# Altium integrated library V2COM_2018.IntLib: 302 symbols (part 2 of 2)
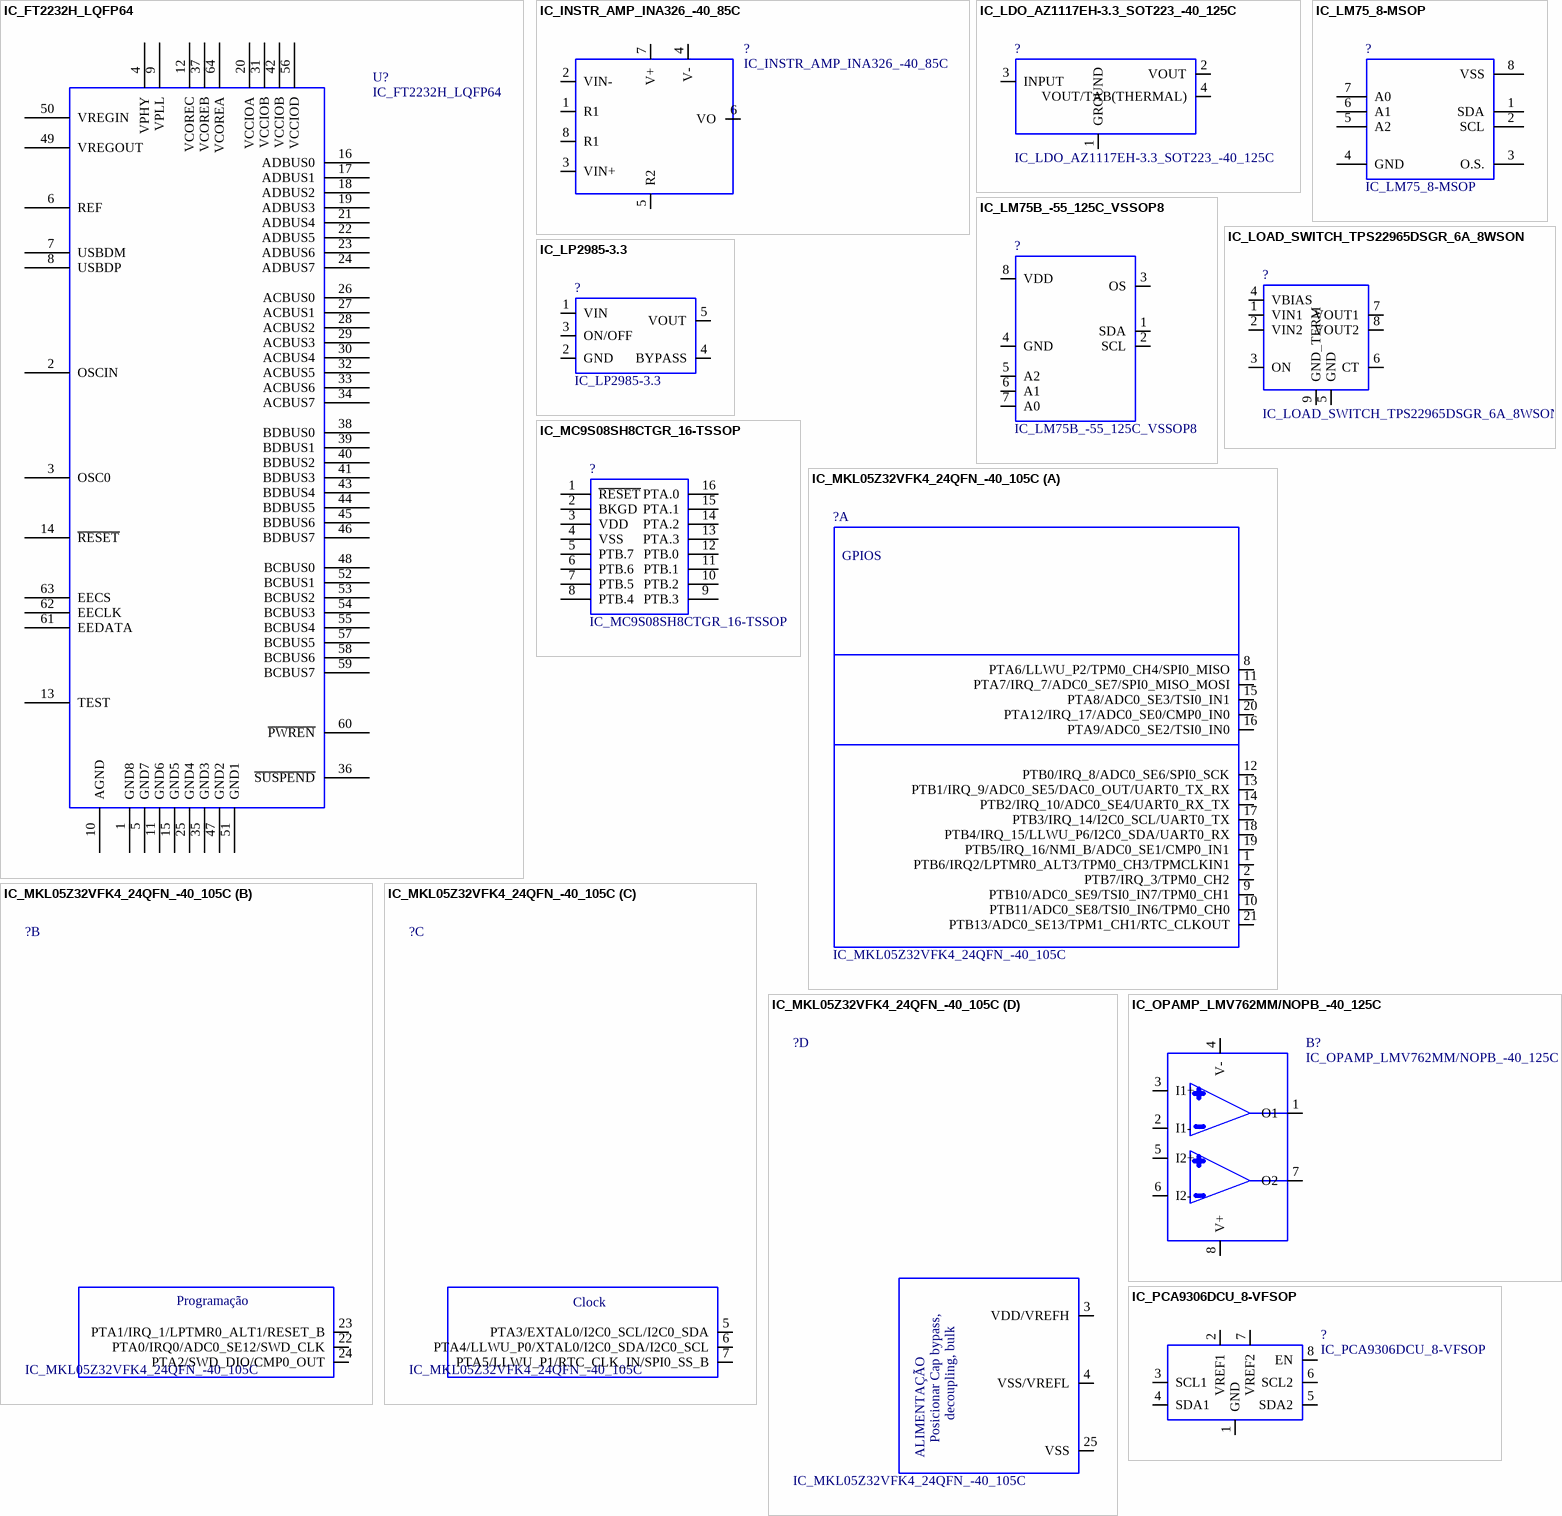
[diagram p17: symbols IC_FT2232H_LQFP64 to IC_PCA9306DCU_8-VFSOP]

## IC_FT2232H_LQFP64
designator U?
PKG: 64 Pin LQFP; VALOR: FT2232HL; MAN: FTDI; Geometry.Height: 0.9 mm; DESC: Dual High Speed USB to UART/FIFO; PN: FT2232HL
footprint LQFP64_10X10
pins: 1 GND8, 2 OSCIN, 3 OSC0, 4 VPHY (power), 5 GND7, 6 REF, 7 USBDM, 8 USBDP, 9 VPLL, 10 AGND, 11 GND6, 12 VCOREC (power), 13 TEST, 14 ~{RESET}, 15 GND5, 16 ADBUS0, 17 ADBUS1, 18 ADBUS2, 19 ADBUS3, 20 VCCIOA (power), 21 ADBUS4, 22 ADBUS5, 23 ADBUS6, 24 ADBUS7, 25 GND4 (power), 26 ACBUS0, 27 ACBUS1, 28 ACBUS2, 29 ACBUS3, 30 ACBUS4, 31 VCCIOB (power), 32 ACBUS5, 33 ACBUS6, 34 ACBUS7, 35 GND3 (power), 36 ~{SUSPEND}, 37 VCOREB (power), 38 BDBUS0, 39 BDBUS1, 40 BDBUS2, 41 BDBUS3, 42 VCCIOB (power), 43 BDBUS4, 44 BDBUS5, 45 BDBUS6, 46 BDBUS7, 47 GND2 (power), 48 BCBUS0, 49 VREGOUT (power), 50 VREGIN (power), 51 GND1 (power), 52 BCBUS1, 53 BCBUS2, 54 BCBUS3, 55 BCBUS4, 56 VCCIOD (power), 57 BCBUS5, 58 BCBUS6, 59 BCBUS7, 60 ~{PWREN}, 61 EEDATA, 62 EECLK, 63 EECS, 64 VCOREA (power)
1 alternate drawing of the same symbol

## IC_INSTR_AMP_INA326_-40_85C
designator ?
DESC: IC Instru. AMP; Geometry.Height: 1.1 mm; MAN: TI; ORIGEM: SFI ED03r1; PKG: 8VSSOP; PN: INA326EA/2K5; TemperatureRange: [-40;85]ºC; VALOR: INA326; VoltageRange: [2.7;5.5]V;[±1,35;2,75]V
footprint INA326-8VSSOP-DGK
pins: 1 R1, 2 VIN-, 3 VIN+, 4 V-, 5 R2, 6 VO, 7 V+, 8 R1

## IC_LDO_AZ1117EH-3.3_SOT223_-40_125C
designator ?
CurrentRange: Ioutmax=1.3A;Iq=3.5mA; DESC: Low Dropout Linear Regulator 1A; Geometry.Height: 1.8 mm; MAN: ON Semiconductor; PKG: SOT223; PN: AZ1117EH-3.3TRG1; TemperatureRange: [-40;155] ºC; VoltageRange: Vin=[-;13]V; ORIGEM: SFI ED03r1; VALOR: AZ1117EH-3.3TRG1
footprint IC_LDO_AZ1117E
pins: 1 GROUND, 2 VOUT, 3 INPUT, 4 VOUT/TAB(THERMAL)

## IC_LM75_8-MSOP
designator ?
VALOR: LM75; PN: LM75BIMM-3; LM75ADP; PKG: 8-TSSOP, 8-MSOP; MAN: TEXAS INSTRUMENTS; NXP; Geometry.Height: 1.1mm; DESC: IC TEMP SENSOR DGTL 8VSSOP
footprint MSOP-8
pins: 1 SDA, 2 SCL, 3 O.S., 4 GND, 5 A2, 6 A1, 7 A0, 8 VSS (power)

## IC_LM75B_-55_125C_VSSOP8
designator ?
DESC: LM75 Digital Temperature Sensor; Geometry.Height: 1.1mm; MAN: NXP; Texas Instruments; ORIGEM: SFI ED03r1; PKG: VSSOP-8; PN: LM75BDP-118;LM75BIMM-3/NOPB; TemperatureRange: [-55;125]C; VALOR: LM75B; VoltageRange: [3;5.5]V; CurrentRange: [4;300]uA; FrequencyRange: up to 400kHz
footprint LM75BDP-118
pins: 1 SDA (io), 2 SCL, 3 OS (oc), 4 GND, 5 A2, 6 A1, 7 A0, 8 VDD (power)

## IC_LOAD_SWITCH_TPS22965DSGR_6A_8WSON
designator ?
CurrentRange: [-;6]A; Geometry.Height: 0.8 mm; MAN: Texas Instruments; ORIGEM: SFI ED03r1; PKG: 8-WSON; TemperatureRange: [-40°,105°]C; VoltageRange: [0.8;5.7]V; DESC: IC_LOAD_SWITCH_TPS22965DSGR_6A_8WSON; PN: TPS22965DSGR; VALOR: TPS22965
footprint TPS22965DSGR
pins: 1 VIN1 (power), 2 VIN2 (power), 3 ON, 4 VBIAS, 5 GND, 6 CT, 7 VOUT1, 8 VOUT2, 9 GND_TERM

## IC_LP2985-3.3
designator ?
VALOR: LP2985-3.0V; PN: LP2985AIM5-3.0/NOPB; PKG: SOT23-5; ORIGEM: SFI ED03r1; MAN: Texas Instruments; Geometry.Height: 1.45 mm; DESC: Micropower150-mA Low-Noise Ultra-Low-Dropout Regulator Vout=3.0V
footprint SOT23-5
pins: 1 VIN, 2 GND, 3 ON/OFF, 4 BYPASS, 5 VOUT

## IC_MC9S08SH8CTGR_16-TSSOP
designator ?
VALOR: SH8; Geometry.Height: 0.8 mm; MAN: FREESCALE; DESC: IC MCU 8BIT 8K FLASH; PN: MC9S08SH8CTGR; PKG: 16-TSSOP
footprint SH8-16-TSSOP
pins: 1 ~{RESET}, 2 BKGD, 3 VDD, 4 VSS, 5 PTB.7, 6 PTB.6, 7 PTB.5, 8 PTB.4, 9 PTB.3, 10 PTB.2, 11 PTB.1, 12 PTB.0, 13 PTA.3, 14 PTA.2, 15 PTA.1, 16 PTA.0

## IC_MKL05Z32VFK4_24QFN_-40_105C
designator ?
DESC: IC MCU ARM 32KB FLASH 24QFN -40 105C; Geometry.Height: 1.0mm; MAN: NXP; ORIGEM: SFI ED03r1; PKG: 24QFN; VALOR: MKL05Z; TemperatureRange: [-40;105]C; VoltageRange: [1,7;3,6]V; CurrentRange: [2.5u;10m]A; FrequencyRange: up to 48MHz; PN: MKL05Z32VFK4
footprint MKL05Z32VFK4
part A pins: 1 PTB6/IRQ2/LPTMR0_ALT3/TPM0_CH3/TPMCLKIN1, 2 PTB7/IRQ_3/TPM0_CH2, 8 PTA6/LLWU_P2/TPM0_CH4/SPI0_MISO, 9 PTB10/ADC0_SE9/TSI0_IN7/TPM0_CH1, 10 PTB11/ADC0_SE8/TSI0_IN6/TPM0_CH0, 11 PTA7/IRQ_7/ADC0_SE7/SPI0_MISO_MOSI, 12 PTB0/IRQ_8/ADC0_SE6/SPI0_SCK, 13 PTB1/IRQ_9/ADC0_SE5/DAC0_OUT/UART0_TX_RX, 14 PTB2/IRQ_10/ADC0_SE4/UART0_RX_TX, 15 PTA8/ADC0_SE3/TSI0_IN1, 16 PTA9/ADC0_SE2/TSI0_IN0, 17 PTB3/IRQ_14/I2C0_SCL/UART0_TX, 18 PTB4/IRQ_15/LLWU_P6/I2C0_SDA/UART0_RX, 19 PTB5/IRQ_16/NMI_B/ADC0_SE1/CMP0_IN1, 20 PTA12/IRQ_17/ADC0_SE0/CMP0_IN0, 21 PTB13/ADC0_SE13/TPM1_CH1/RTC_CLKOUT
part B pins: 22 PTA0/IRQ0/ADC0_SE12/SWD_CLK, 23 PTA1/IRQ_1/LPTMR0_ALT1/RESET_B, 24 PTA2/SWD_DIO/CMP0_OUT
part C pins: 5 PTA3/EXTAL0/I2C0_SCL/I2C0_SDA, 6 PTA4/LLWU_P0/XTAL0/I2C0_SDA/I2C0_SCL, 7 PTA5/LLWU_P1/RTC_CLK_IN/SPI0_SS_B
part D pins: 3 VDD/VREFH, 4 VSS/VREFL, 25 VSS
part A text: GPIOS
part B text: Programação
part C text: Clock
part D text: decoupling, bulk; Posicionar Cap bypass,; ALIMENTAÇÃO

## IC_OPAMP_LMV762MM/NOPB_-40_125C
designator B?
DESC: IC COMP PREC W/P-POP LV 8VSSOP; Geometry.Height: 1.2mm; MAN: TEXAS INSTRUMENTS; ORIGEM: SFI ED03r1; PKG: 8VSSOP; TemperatureRange: [-40;125]ºC; VoltageRange: [2.7;5]V; PN: LMV762MM/NOPB; VALOR: LMV762MM/NOPB
footprint LMV762MM-8VSSOP-DGK
pins: 1 O1, 2 I1-, 3 I1+, 4 V-, 5 I2+, 6 I2-, 7 O2, 8 V+

## IC_PCA9306DCU_8-VFSOP
designator ?
DESC: IC VOLT LEVEL TRANSLATOR US8; MAN: TEXAS INSTRUMENTS; PN: PCA9306DCUR; Geometry.Height: 1mm; PKG: 8-VFSOP; VALOR: PCA9306DCUR
footprint DCU_R_PDSO_G8
pins: 1 GND, 2 VREF1 (power), 3 SCL1 (io), 4 SDA1 (io), 5 SDA2 (io), 6 SCL2 (io), 7 VREF2 (power), 8 EN

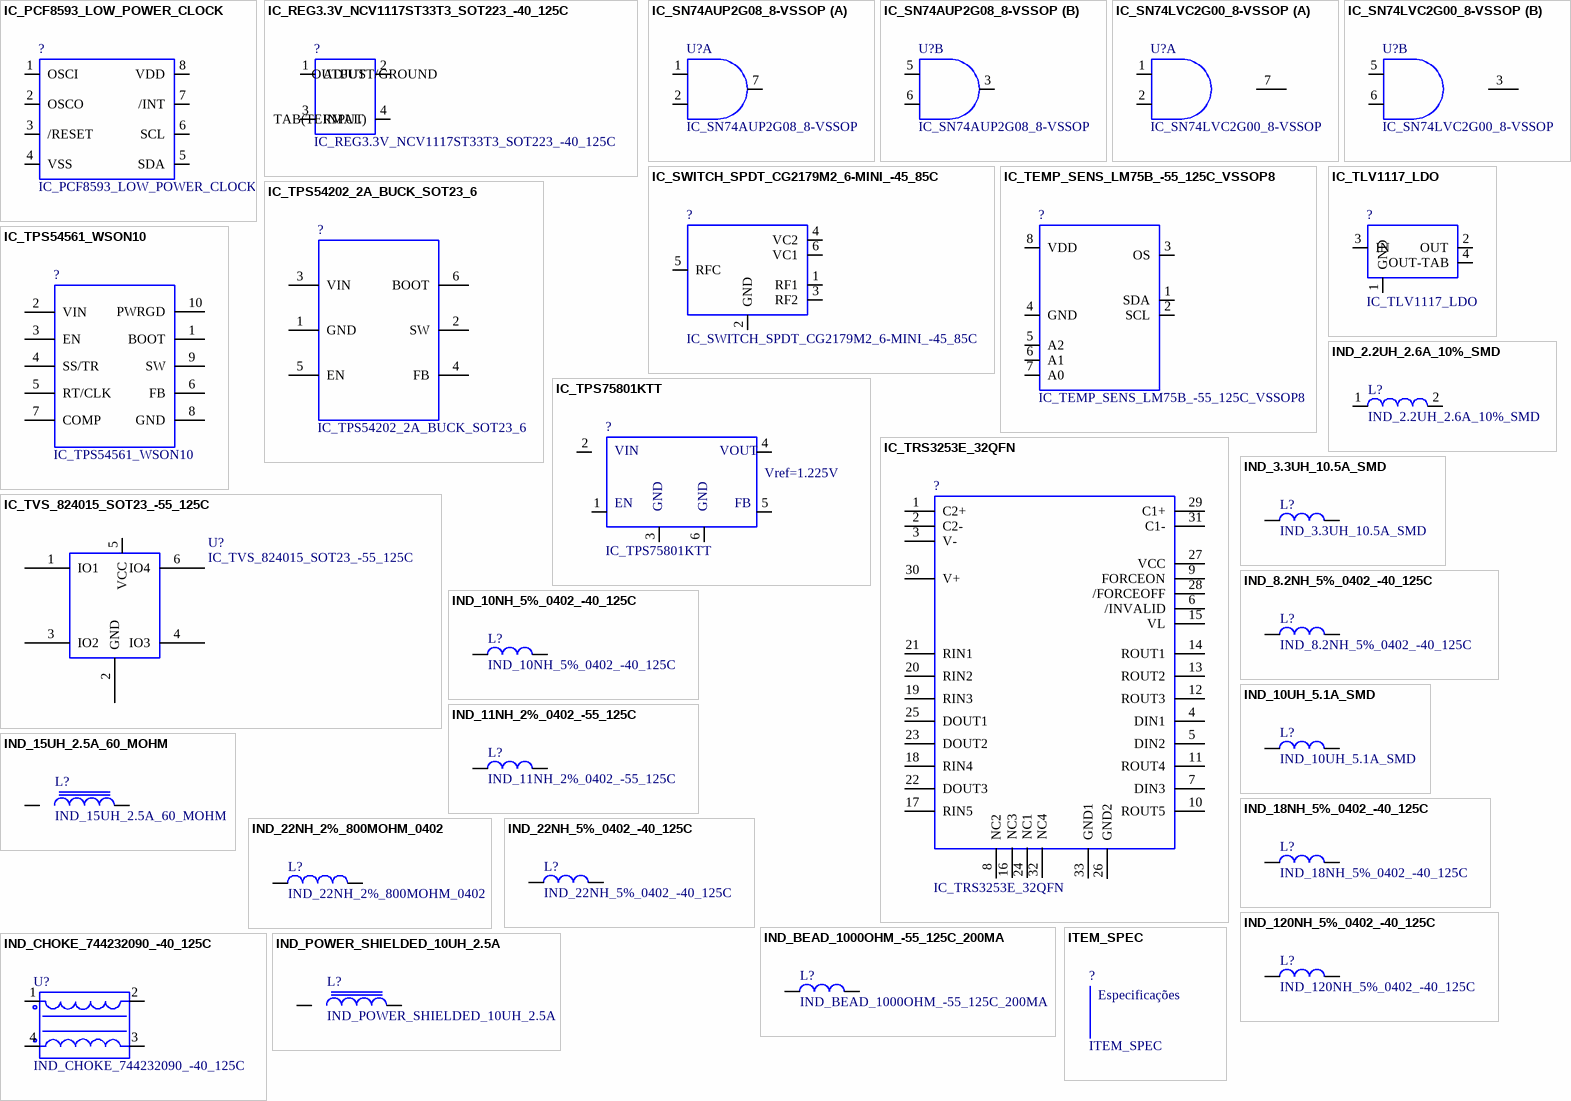
[diagram p11: symbols IC_PCF8593_LOW_POWER_CLOCK to ITEM_SPEC]

## IC_PCF8593_LOW_POWER_CLOCK
designator ?
DESC: Low power clock and calendar; Geometry.Height: 1.75 mm; MAN: NXP Semiconductors; ORIGEM: CRC_BRICK_PULSE_COUNTER_ED01R1; PKG: SO8; PN: PCF8593; VALOR: PCF8593
footprint IC_PCF8593_8SOIC
pins: 1 OSCI, 2 OSCO, 3 /RESET, 4 VSS, 5 SDA, 6 SCL, 7 /INT, 8 VDD

## IC_REG3.3V_NCV1117ST33T3_SOT223_-40_125C
designator ?
CurrentRange: Iout=1A;Iq=10mA; DESC: REG_Vout_3.3V_NCV1117ST33T3G_1A_SOT223_-40_125C; Geometry.Height: 1.8 mm; MAN: ON Semiconductor; PKG: SOT223; PN: NCV1117ST33T3G; TemperatureRange: [-40;125] ºC; VALOR: REGULADOR 3.3V NCV1117ST33T3G; VoltageRange: Vin=[-;20]V; ORIGEM: SFI ED03r1
footprint NCV1117ST33T3G
pins: 1 ADJUST/GROUND, 2 OUTPUT, 3 INPUT, 4 TAB(TERMAL)

## IC_SN74AUP2G08_8-VSSOP
designator U?
PKG: DCU; VALOR: SN74AUP2G08DCU; MAN: TI; Geometry.Height: 0.9 mm; DESC: Low power Dual 2-input POSISTIVE-AND GATE; PN: SN74AUP2G08DCU
footprint U_8_DCU
pins on every part: 4 GND (power) hidden, 8 VCC (power) hidden
part A pins: 1 2A, 2 2B, 7 2Y
part B pins: 3 2Y, 5 2A, 6 2B

## IC_SN74LVC2G00_8-VSSOP
designator U?
PKG: DCU; VALOR: SN74LVC2G00DCUR; MAN: TI; Geometry.Height: 0.9 mm; DESC: Dual 2-Input POSITIVE-NAND GATE; PN: SN74LVC2G00DCUR
footprint U_8_DCU
pins on every part: 4 GND (power) hidden, 8 VCC (power) hidden
part A pins: 1 2A, 2 2B, 7 2Y (oc)
part B pins: 3 2Y (oc), 5 2A, 6 2B

## IC_SWITCH_SPDT_CG2179M2_6-MINI_-45_85C
designator ?
FrequencyRange: [0.05, 3]GHz; Geometry.Height: 0.9 mm; MAN: CEL; ORIGEM: SFI ED03r1; PKG: 6-Minimold SMD; TemperatureRange: [-45;85]C; VoltageRange: [1.8;5.3]V; DESC: IC_SWITCH_SPDT_CG2179M2_6-MINI_-45_85C; PN: CG2179M2; VALOR: CG2179M2
footprint SWITCH_CG2179M2
pins: 1 RF1, 2 GND, 3 RF2, 4 VC2 (power), 5 RFC, 6 VC1 (power)

## IC_TEMP_SENS_LM75B_-55_125C_VSSOP8
designator ?
CurrentRange: [4;300]uA; DESC: LM75 Digital Temperature Sensor; FrequencyRange: up to 400kHz; Geometry.Height: 1.1mm; MAN: NXP; Texas Instruments; ORIGEM: SFI ED03r1; PKG: VSSOP-8; PN: LM75BDP-118;LM75BIMM-3/NOPB; TemperatureRange: [-55;125]C; VALOR: LM75B; VoltageRange: [3;5.5]V
footprint LM75BDP-118
pins: 1 SDA (io), 2 SCL, 3 OS (oc), 4 GND, 5 A2, 6 A1, 7 A0, 8 VDD (power)

## IC_TLV1117_LDO
designator ?
DESC: FIXED LOW-DROPOUT VOLTAGE REGULATOR; PKG: SOT-223; VALOR: TLV1117-33; Geometry.Height: 1.8mm
footprint IC_TLV1117-33
pins: 1 GND, 2 OUT, 3 IN, 4 OUT-TAB

## IC_TPS54202_2A_BUCK_SOT23_6
designator ?
PN: TPS54202DDCT; PKG: SOT23-6; MAN: TI; Geometry.Height: 1.1mm; DESC: IC REG BUCK ADJ 2A SYNC SOT23-6; VALOR: TPS54202
footprint SOT23-6
pins: 1 GND, 2 SW, 3 VIN, 4 FB, 5 EN, 6 BOOT

## IC_TPS54561_WSON10
designator ?
DESC: IC REG BCK SPLIT RAIL ADJ 10WSON; Geometry.Height: 1mm; MAN: TI; PKG: 10 WSON; PN: TPS54561DP; VALOR: TPS54561
footprint SON80P400X400X80-11N
pins: 1 BOOT, 2 VIN (power), 3 EN (hiz), 4 SS/TR, 5 RT/CLK, 6 FB, 7 COMP, 8 GND, 9 SW (power), 10 PWRGD, 11 GND (power) hidden

## IC_TPS75801KTT
designator ?
PN: TPS75801KTTR, TPS75801KTTT; PKG: TO-263; MAN: TI; TI; Geometry.Height: 4.6mm; DESC: Voltage Regulator 3A LOW-DROPOUT; VALOR: TPS75801KTT
footprint LM2576_TO-263_3
pins: 1 EN, 2 IN, 3 GND, 4 OUT, 5 FB, 6 GND1
text: VIN; VOUT; Vref=1.225V

## IC_TRS3253E_32QFN
designator ?
DESC: RS-232 TRANSCEIVER WITH SPLIT SUPPLY PIN FOR LOGIC SIDE; Geometry.Height: 1.0 mm; MAN: Texas Instruments; PKG: RSM (S-PVQFN-N32); PN: TRS3253EIRSMR; VALOR: TRS3253EIRSMR
footprint 32_QFN
pins: 1 C2+, 2 C2-, 3 V-, 4 DIN1, 5 DIN2, 6 /INVALID, 7 DIN3, 8 NC2, 9 FORCEON, 10 ROUT5, 11 ROUT4, 12 ROUT3, 13 ROUT2, 14 ROUT1, 15 VL (power), 16 NC3, 17 RIN5, 18 RIN4, 19 RIN3, 20 RIN2, 21 RIN1, 22 DOUT3, 23 DOUT2, 24 NC1, 25 DOUT1, 26 GND2, 27 VCC (power), 28 /FORCEOFF, 29 C1+, 30 V+, 31 C1-, 32 NC4, 33 GND1

## IC_TVS_824015_SOT23_-55_125C
designator U?
CurrentRange: Ipp=12A; DESC: TVS array ESD protection 4channel USB Interface; Geometry.Height: 0.6 mm; MAN: littelfuse, wurth; ORIGEM: SFI ED03r1; PKG: SO23-6; PN: SP0504SH, 824015; TemperatureRange: [-55;125]ºC; VALOR: SP0504SH; VoltageRange: Vdc=6V
footprint SOT23-6
pins: 1 IO1, 2 GND, 3 IO2, 4 IO3 (power), 5 VCC, 6 IO4 (power)

## IND_2.2UH_2.6A_10%_SMD
designator L?
PKG: SMD; VALOR: 2.2uH, 2.6A; PN: ELL-5PR2R2N, VLCF5020T-2R2N2R6-3, VLC5020T-2R2N; MAN: Panasonic, TDK, TDK; Geometry.Height: 2.0 mm; DESC: Inductor 2.2uH 2.6A, 43 milliohm
footprint VLCF5020T_1
pins: 1, 2

## IND_3.3UH_10.5A_SMD
designator L?
DESC: FIXED IND 3.3UH 10.5A 5.67 MOHM; Geometry.Height: 8.0mm; MAN: EATON; PKG: SMD; PN: DR127-3R3-R; VALOR: 3.3uH,10.5A
footprint DR127
pins: 1, 2

## IND_8.2NH_5%_0402_-40_125C
designator L?
CurrentRange: [-;1.5]A; DESC: IND_8.2NH_5%_0.054OHM_0402_-40_125C; Geometry.Height: 0.61 mm; MAN: CoilCraft; ORIGEM: SFI ED03r1; PKG: 0402; PN: 0402HP-8N2XJL; TemperatureRange: [-40;125]C; VALOR: 8.2nH, 5%
footprint IND0402
pins: 1, 2

## IND_10NH_5%_0402_-40_125C
designator L?
CurrentRange: [-;1.3]A; DESC: IND_10NH_5%_0.085OHM_0402_-40_125C; Geometry.Height: 0.61 mm; MAN: CoilCraft; ORIGEM: SFI ED03r1; PKG: 0402; PN: 0402HP-10NXJLU; TemperatureRange: [-40;125]C; VALOR: 10nH, 5%
footprint IND0402
pins: 1, 2

## IND_10UH_5.1A_SMD
designator L?
MAN: TDK; TDK; Geometry.Height: 4.7mm; VALOR: 10uH,5.1A; PN: RLF12545T-100M5R1-PF; RLF12560T-100M7R5; PKG: SMD; DESC: FIXED IND 10UH 5.1A 12.4 MOHM
footprint 7447709101
pins: 1, 2

## IND_11NH_2%_0402_-55_125C
designator L?
CurrentRange: [-;0.5]A; DESC: IND_11NH_0.14OHM_2%_0402_-55_125C; Geometry.Height: 0.6 mm; MAN: Murata Electronis North America; ORIGEM: SFI ED03r1; PKG: 0402; PN: LQW15AN11NG00D; TemperatureRange: [-55;125]C; VALOR: 11nH, 2%
footprint IND0402
pins: 1, 2

## IND_15UH_2.5A_60_MOHM
designator L?
DESC: IND SHIELDED POWER 15UH 1.6A; MAN: BOURNS; PN: SRR6038-150Y; VALOR: 15uH 1.6A; Geometry.Height: *
footprint IND_BOURNS_SDR1005
pins: 1, 2
1 alternate drawing of the same symbol

## IND_18NH_5%_0402_-40_125C
designator L?
CurrentRange: [-;0.9]A; DESC: IND_18NH_5%_0.120OHM_0402_-40_125C; Geometry.Height: 0.61 mm; MAN: CoilCraft; ORIGEM: SFI ED03r1; PKG: 0402; PN: 0402HP-18NXJLU; TemperatureRange: [-40;125]C; VALOR: 18nH, 5%
footprint IND0402
pins: 1, 2

## IND_22NH_2%_800MOHM_0402
designator L?
PKG: 0402; VALOR: 22nH; PN: ELJ-RF22NGFB; MAN: Panasonic; Geometry.Height: 0.5 mm; DESC: IND 22nH 2% 200mA 800mohm 0402
footprint 0402
pins: 1, 2

## IND_22NH_5%_0402_-40_125C
designator L?
CurrentRange: [-;0.8]A; DESC: IND_22NH_5%_0.160OHM_0402_-40_125C; Geometry.Height: 0.61 mm; MAN: CoilCraft; ORIGEM: SFI ED03r1; PKG: 0402; PN: 0402HP-22NXJL; TemperatureRange: [-40;125]C; VALOR: 22nH, 5%
footprint IND0402
pins: 1, 2

## IND_120NH_5%_0402_-40_125C
designator L?
CurrentRange: [-;0.31]A; DESC: IND_120NH_5%_1.2OHM_0402_-40_125C; Geometry.Height: 0.61 mm; MAN: CoilCraft; ORIGEM: SFI ED03r1; PKG: 0402; PN: 0402HPH-R12XJL; TemperatureRange: [-40;125]C; VALOR: 120nH, 5%
footprint IND0402
pins: 1, 2

## IND_BEAD_1000OHM_-55_125C_200MA
designator L?
DESC: FERR BEAD 1000OHM WIDE BAND SMD -55 125C; Geometry.Height: 0.8mm; MAN: WURTH; ORIGEM: SFI ED03r1; PKG: 0603; PN: 74279266; VALOR: 1000Ohm bead; TemperatureRange: [-55;125]C; CurrentRange: [-;200m]A
footprint IND0603
pins: 1, 2

## IND_CHOKE_744232090_-40_125C
designator U?
CurrentRange: Imax=370mA; DESC: Common Mode Line Filter; Geometry.Height: 1.8mm; MAN: WURTH; ORIGEM: SFI ED03r1; PKG: SMD; TemperatureRange: [-40;125]ºC; VoltageRange: [-;50]V; PN: 744232090; VALOR: 744232090
footprint 744232090
pins: 1, 2, 3, 4

## IND_POWER_SHIELDED_10UH_2.5A
designator L?
PKG: SMD; VALOR: 10uH,2.5A; PN: SRN6045-100M; MAN: BOURNS; Geometry.Height: 4.5 mm; DESC: IND SHIELDED 10UH 2.5A 58.6MOHM
footprint INDDFN600X600X450-2N
pins: 1, 2

## ITEM_SPEC
designator ?
DESC: *
footprint PCBNULL
text: Especificações

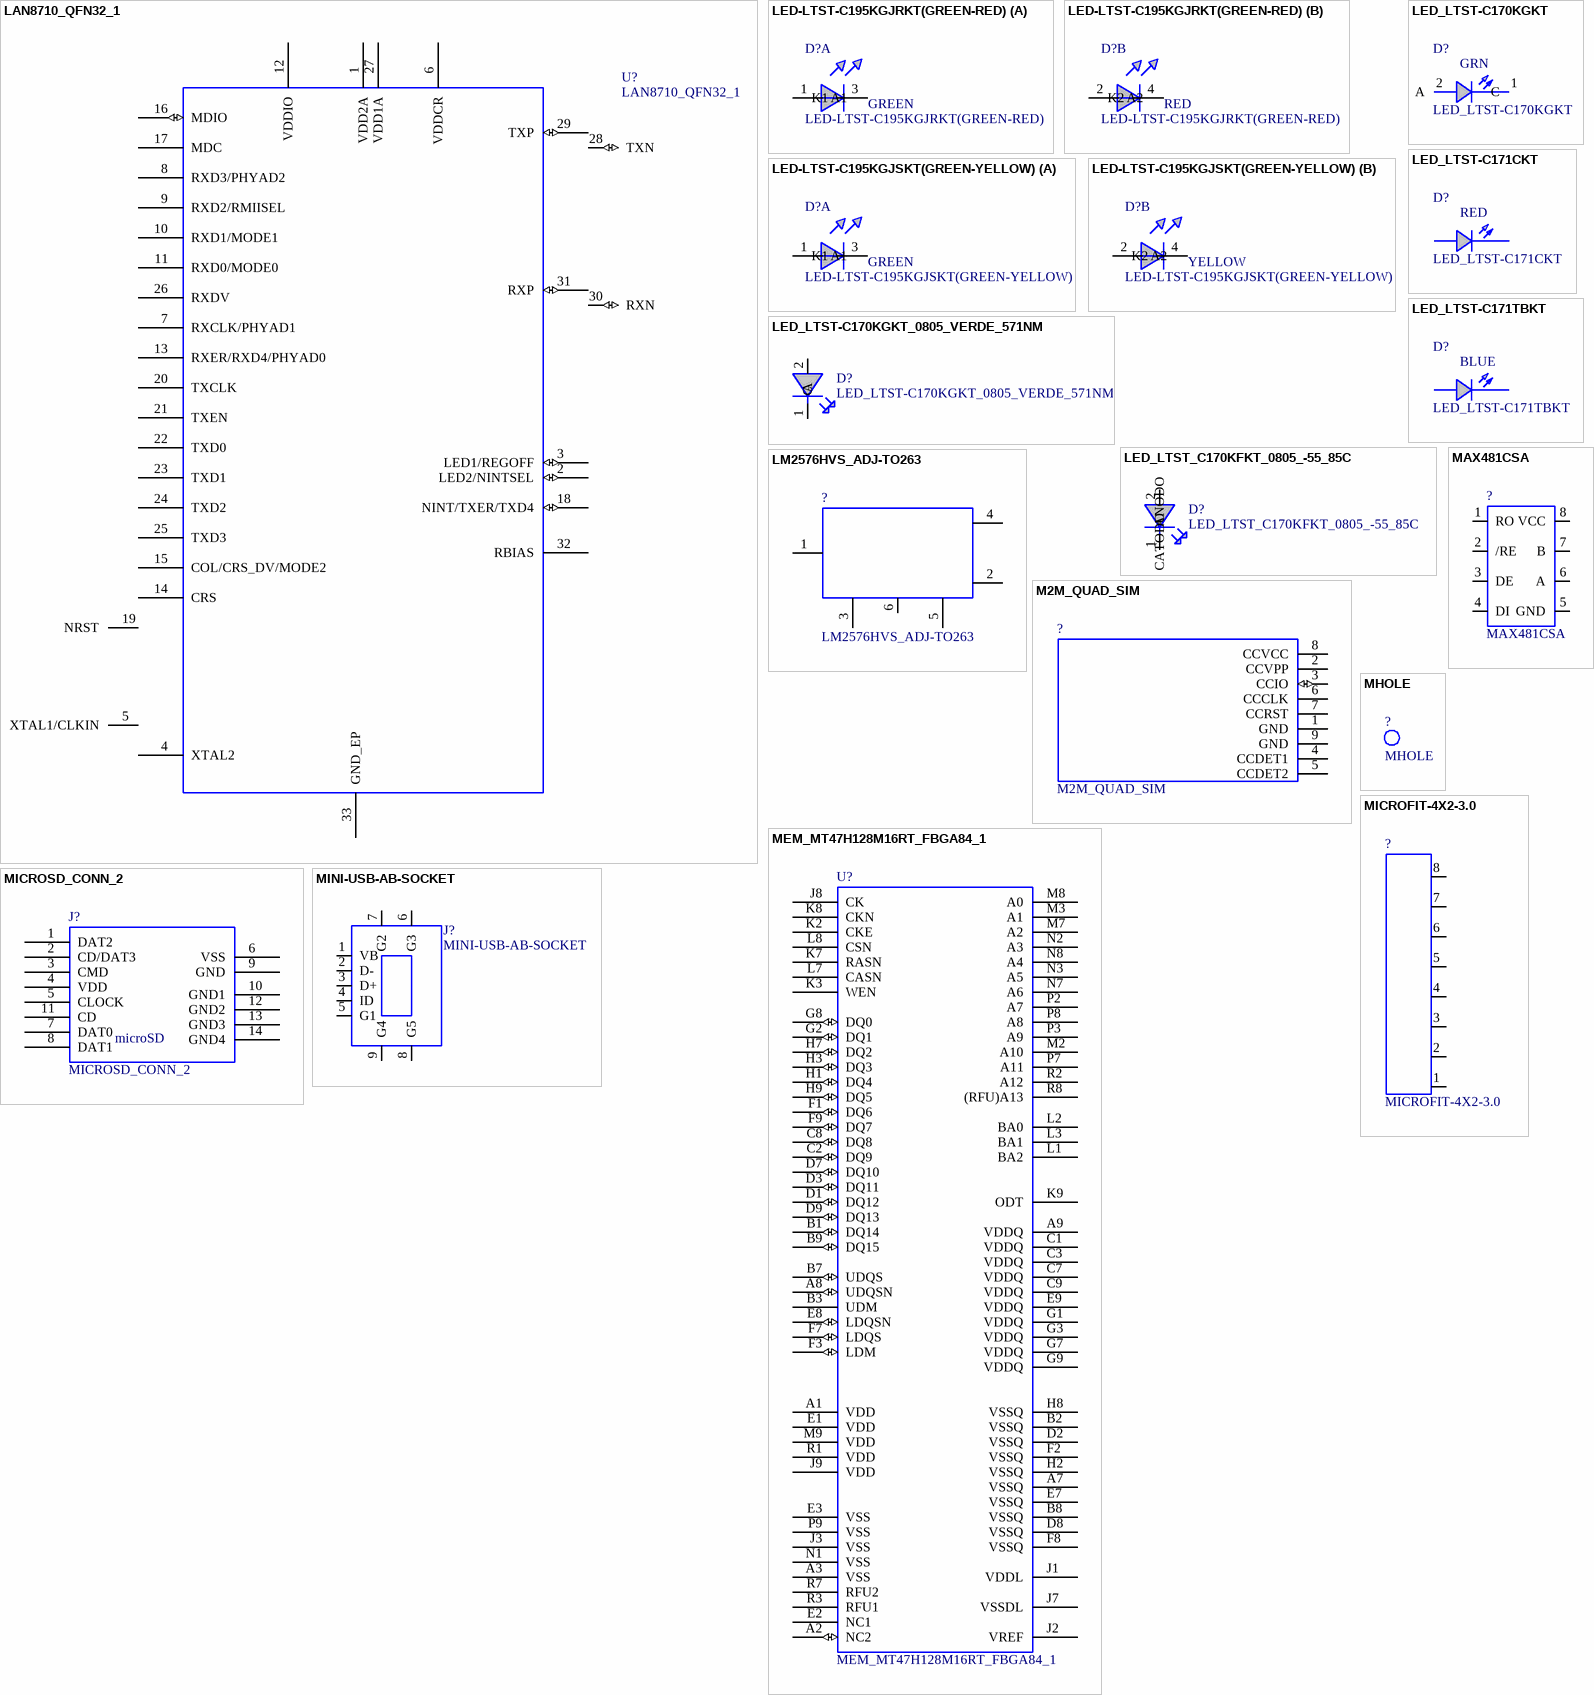
[diagram p12: symbols LAN8710_QFN32_1 to MINI-USB-AB-SOCKET]

## LAN8710_QFN32_1
designator U?
PKG: 32 Pin QFN; DESC: Ethernet Transceiver MII/RMII 10/100; VALOR: LAN8710A-EZK-TR; MAN: SMSC; Geometry.Height: 0.85 mm; PN: LAN8710A-EZK-TR
footprint QFN32_5X5MM_EP3P3MM
pins: 1 VDD2A (power), 2 LED2/NINTSEL (io), 3 LED1/REGOFF (io), 4 XTAL2, 5 XTAL1/CLKIN, 6 VDDCR (power), 7 RXCLK/PHYAD1, 8 RXD3/PHYAD2, 9 RXD2/RMIISEL, 10 RXD1/MODE1, 11 RXD0/MODE0, 12 VDDIO (power), 13 RXER/RXD4/PHYAD0, 14 CRS, 15 COL/CRS_DV/MODE2, 16 MDIO (io), 17 MDC, 18 NINT/TXER/TXD4 (io), 19 NRST, 20 TXCLK, 21 TXEN, 22 TXD0, 23 TXD1, 24 TXD2, 25 TXD3, 26 RXDV, 27 VDD1A (power), 28 TXN (io), 29 TXP (io), 30 RXN (io), 31 RXP (io), 32 RBIAS, 33 GND_EP (power)

## LED-LTST-C195KGJRKT(GREEN-RED)
designator D?
Geometry.Height: 0.55mm; DESC: LED SMD BICOLOR - VERDE/VERMELHO; MAN: LITEON; PKG: 0606; VALOR: VERDE 571nm - Vermelho 631nm; PN: LTST-C195KGJRKT
footprint LED-DUPLO-V2
part A pins: 1 A1, 3 K1
part B pins: 2 A2, 4 K2
part A text: GREEN
part B text: RED

## LED-LTST-C195KGJSKT(GREEN-YELLOW)
designator D?
Geometry.Height: 0.55 mm; DESC: LED SMD BICOLOR - VERDE/AMARELO; MAN: LITEON; PKG: 0606; VALOR: VERDE 571nm 35 mcd - Yellow 589nm 75 mcd; PN: LTST-C195KGJSKT
footprint LED-DUPLO-V2
part A pins: 1 A1, 3 K1
part B pins: 2 A2, 4 K2
part A text: GREEN
part B text: YELLOW

## LED_LTST-C170KGKT
designator D?
Geometry.Height: 1.1 mm; MAN: llite-on; Kingbright; Everlight; PN: LTST-C170KGKT; KP-2012VGC-A; 17-21SYGC/S530-E2/TR8; VALOR: Green, 571 nm; DESC: LED Green 20mA 2V 0805; PKG: 0805
footprint LED0805-1
pins: 1 C, 2 A
text: GRN

## LED_LTST-C170KGKT_0805_VERDE_571NM
designator D?
CurrentRange: [-;30]mA; DESC: LED_VERDE_0805_35mcd; Geometry.Height: 1.1 mm; MAN: Lite-On Inc.; ORIGEM: SFI ED03r1; PKG: 0805; TemperatureRange: [-40º;85º]C; VALOR: LED VERDE 571nm LTST-C170KGKT; VoltageRange: Reverse_Voltage=5V; Vt=2V; PowerRating: Pmax=75mW; PN: LTST-C170KGKT
footprint LED0805
pins: 1 C, 2 A

## LED_LTST-C171CKT
designator D?
PKG: 0805; DESC: LED Red 20mA 1.8V 0805; VALOR: Red, 638 nm; MAN: lite-on; Geometry.Height: 0.8 mm; PN: LTST-C171CKT
footprint LED0805-1
pins: 1 C, 2 A
text: RED

## LED_LTST-C171TBKT
designator D?
PKG: 0805; DESC: LED Blue 20mA 2V 0805 104 mcd 468 nm; VALOR: Blue, 468nm, 104mcd; PN: LTST-C171TBKT; 17-21/BHC-AN1P2/3T; MAN: Lite-on; Everlight; Geometry.Height: 0.55 mm
footprint LED0805-1
pins: 1 C, 2 A
text: BLUE

## LED_LTST_C170KFKT_0805_-55_85C
designator D?
CurrentRange: [-;30]mA; DESC: LED_Vt_2V_0805 _-55_85C; Geometry.Height: 1.1 mm; MAN: Lite-On Inc.; ORIGEM: SFI ED03r1; PKG: 0805; PN: LTST-C170KFKT; TemperatureRange: [-40º;85º]C; VoltageRange: Reverse_Voltage=5V; Vt=2V; PowerRating: 75mW; VALOR: LTST-C170KFKT
footprint LED0805
pins: 1 ANODO, 2 CATODO

## LM2576HVS_ADJ-TO263
designator ?
VALOR: LM2576HV-S ADJ; PKG: TO-263; MAN: TI; Geometry.Height: 4.6mm; DESC: 3A STEP-DOWN Voltage Regulator 60VDC; PN: LM2576HV-S ADJ
footprint LM2576_TO-263_3
pins: 1 +VIN, 2 OUTPUT, 3 GND, 4 FEEDBACK, 5 ~{ON/OFF}, 6 GND1

## M2M_QUAD_SIM
designator ?
PKG: VQFN8; Geometry.Height: 1.0 mm; PN: Full M2M Quad MIM; MAN: GEMALTO; DESC: SIM PCB conector; VALOR: M2M Card
footprint M2M_QUAD_SIM
pins: 1 GND, 2 CCVPP, 3 CCIO (io), 4 CCDET1, 5 CCDET2, 6 CCCLK, 7 CCRST, 8 CCVCC (power), 9 GND

## MAX481CSA
designator ?
PKG: 8 SOIC; MAN: MAXIM; Geometry.Height: 1.75 mm; DESC: Low-Power, Slew-rate-Limited RS485/RS-422 Transceivers; VALOR: MAX481CSA; PN: MAX481CSA
footprint MAX481CSA
pins: 1 RO, 2 /RE, 3 DE, 4 DI, 5 GND, 6 A, 7 B, 8 VCC

## MEM_MT47H128M16RT_FBGA84_1
designator U?
PKG: 84 ball FBGA rev.c; VALOR: MT47H128M16RT-25E:C; MAN: MICRON; Geometry.Height: 0.8 mm; DESC: DDR2 SDRAM 2Gb (128Mx16); PN: MT47H128M16RT-25E:C
footprint BGA84_8X12P5_P8MM
pins: A1 VDD (power), A2 NC2 (io), A3 VSS (power), A7 VSSQ (power), A8 UDQSN (io), A9 VDDQ (power), B1 DQ14 (io), B2 VSSQ (power), B3 UDM, B7 UDQS (io), B8 VSSQ (power), B9 DQ15 (io), C1 VDDQ (power), C2 DQ9 (io), C3 VDDQ (power), C7 VDDQ (power), C8 DQ8 (io), C9 VDDQ (power), D1 DQ12 (io), D2 VSSQ (power), D3 DQ11 (io), D7 DQ10 (io), D8 VSSQ (power), D9 DQ13 (io), E1 VDD (power), E2 NC1, E3 VSS (power), E7 VSSQ (power), E8 LDQSN (io), E9 VDDQ (power), F1 DQ6 (io), F2 VSSQ (power), F3 LDM (io), F7 LDQS (io), F8 VSSQ (power), F9 DQ7 (io), G1 VDDQ (power), G2 DQ1 (io), G3 VDDQ (power), G7 VDDQ (power), G8 DQ0 (io), G9 VDDQ (power), H1 DQ4 (io), H2 VSSQ (power), H3 DQ3 (io), H7 DQ2 (io), H8 VSSQ (power), H9 DQ5 (io), J1 VDDL (power), J2 VREF (power), J3 VSS (power), J7 VSSDL (power), J8 CK, J9 VDD (power), K2 CKE, K3 WEN, K7 RASN, K8 CKN, K9 ODT, L1 BA2, L2 BA0, L3 BA1, L7 CASN, L8 CSN, M2 A10, M3 A1, M7 A2, M8 A0, M9 VDD (power), N1 VSS (power), N2 A3, N3 A5, N7 A6, N8 A4, P2 A7, P3 A9, P7 A11, P8 A8, P9 VSS (power), R1 VDD (power), R2 A12, R3 RFU1, R7 RFU2, R8 (RFU)A13

## MHOLE
designator ?
PKG: PTH; DESC: Mounting HOLE; VALOR: *; PN: *; MAN: *; Geometry.Height: *
footprint MTGH3.0-PLATED
pins: 1 TP

## MICROFIT-4X2-3.0
designator ?
PKG: PTH; VALOR: 43045-0800; MAN: MOLEX; Geometry.Height: 8.8 mm; DESC: Micro-Fit CONN HEADER 8POS 3MM RT ANG TIN; PN: 43045-0800
footprint 43045-0800-MICROFIT4X2-3.0
pins: 1, 2, 3, 4, 5, 6, 7, 8

## MICROSD_CONN_2
designator J?
PKG: SMD; DESC: MicroSD card conn push-push type; VALOR: Micro-SD CONN; PN: SD-502570-001; MAN: MOLEX; Geometry.Height: 1.8 mm
footprint CON8SMD-MICRO_SD_14P3X15P9
pins: 1 DAT2, 2 CD/DAT3, 3 CMD, 4 VDD (power), 5 CLOCK, 6 VSS (power), 7 DAT0, 8 DAT1, 9 GND (power), 10 GND1, 11 CD (power), 12 GND2 (power), 13 GND3, 14 GND4
text: microSD

## MINI-USB-AB-SOCKET
designator J?
PKG: SMD; DESC: USB SERIES MINI-AB; VALOR: USB mini AB; PN: 56579-0576; MAN: MOLEX; Geometry.Height: 3.95 mm
footprint USB-MINI-SMT-NUM
pins: 1 VB, 2 D-, 3 D+, 4 ID, 5 G1, 6 G3, 7 G2, 8 G5, 9 G4

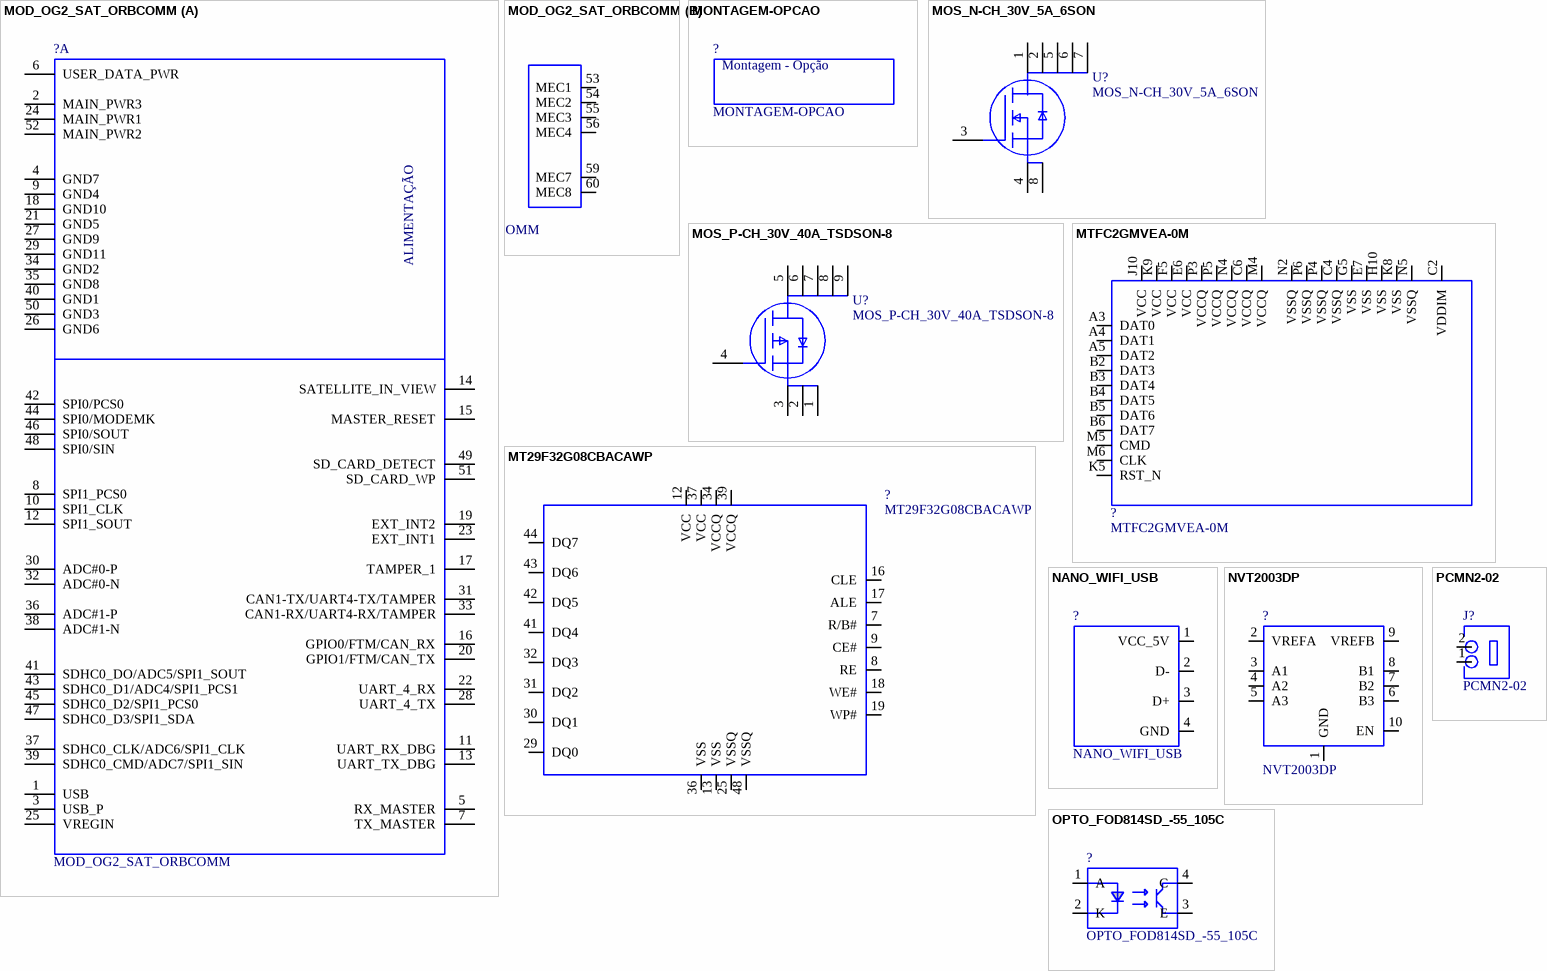
[diagram p13: symbols MOD_OG2_SAT_ORBCOMM to PCMN2-02]

## MOD_OG2_SAT_ORBCOMM
designator ?
DESC: CONN PCI EXP MINI FEMALE 52 POS; MAN: TE CONNECTIVITY; PN: 1775838-2; ORIGEM: NG2 BRICK COMM; VALOR: 1775838-2
footprint CONN_PCI_EXP_MODEM_ORBCOM_SAT
part A pins: 1 USB, 2 MAIN_PWR3, 3 USB_P, 4 GND7, 5 RX_MASTER, 6 USER_DATA_PWR, 7 TX_MASTER, 8 SPI1_PCS0, 9 GND4, 10 SPI1_CLK, 11 UART_RX_DBG, 12 SPI1_SOUT, 13 UART_TX_DBG, 14 SATELLITE_IN_VIEW, 15 MASTER_RESET, 16 GPIO0/FTM/CAN_RX, 17 TAMPER_1, 18 GND10, 19 EXT_INT2, 20 GPIO1/FTM/CAN_TX, 21 GND5, 22 UART_4_RX, 23 EXT_INT1, 24 MAIN_PWR1, 25 VREGIN, 26 GND6, 27 GND9, 28 UART_4_TX, 29 GND11, 30 ADC#0-P, 31 CAN1-TX/UART4-TX/TAMPER, 32 ADC#0-N, 33 CAN1-RX/UART4-RX/TAMPER, 34 GND2, 35 GND8, 36 ADC#1-P, 37 SDHC0_CLK/ADC6/SPI1_CLK, 38 ADC#1-N, 39 SDHC0_CMD/ADC7/SPI1_SIN, 40 GND1, 41 SDHC0_DO/ADC5/SPI1_SOUT, 42 SPI0/PCS0, 43 SDHC0_D1/ADC4/SPI1_PCS1, 44 SPI0/MODEMK, 45 SDHC0_D2/SPI1_PCS0, 46 SPI0/SOUT, 47 SDHC0_D3/SPI1_SDA, 48 SPI0/SIN, 49 SD_CARD_DETECT, 50 GND3, 51 SD_CARD_WP, 52 MAIN_PWR2
part B pins: 53 MEC1, 54 MEC2, 55 MEC3, 56 MEC4, 59 MEC7, 60 MEC8
part A text: ALIMENTAÇÃO

## MONTAGEM-OPCAO
designator ?
VALOR: *; DESC: MONTAGEM-OPCAO
footprint MONTAGEM-OPCAO
text: Montagem - Opção

## MOS_N-CH_30V_5A_6SON
designator U?
DESC: MOSFET N-CH 30V 5A 6SON; Geometry.Height: 1.1 mm; MAN: TI; PKG: 6-WSON; PN: CSD17313Q2Q1; VALOR: 30V,5A
footprint DQK6
footprint DQK6-L
footprint DQK6-M
pins: 1 D, 2 D, 3 G, 4 S, 5 D, 6 D, 7 D, 8 S

## MOS_P-CH_30V_40A_TSDSON-8
designator U?
DESC: MOSFET P-CH 30V 40A TSDSON-8; Geometry.Height: 1.1 mm; MAN: Infineon Technologies; PN: BSZ086P03NS3GATMA1; VALOR: 30V,40A; PKG: TSDSON-8
footprint SON65P330X330X1009N
pins: 1 S, 2 S, 3 S, 4 G, 5 D, 6 D, 7 D, 8 D, 9 D

## MT29F32G08CBACAWP
designator ?
PKG: 48 pin TSOP; MAN: MICRON; Geometry.Height: 1.2 mm; DESC: NAND flash memory 32Gb Asynchronous; VALOR: MT29F32G08CBACAWP; PN: MT29F32G08CBACAWP
footprint MT29F32G08CBACAWP
pins: 7 R/B#, 8 RE, 9 CE#, 12 VCC, 13 VSS, 16 CLE, 17 ALE, 18 WE#, 19 WP#, 25 VSSQ, 29 DQ0, 30 DQ1, 31 DQ2, 32 DQ3, 34 VCCQ, 36 VSS, 37 VCC, 39 VCCQ, 41 DQ4, 42 DQ5, 43 DQ6, 44 DQ7, 48 VSSQ

## MTFC2GMVEA-0M
designator ?
VALOR: eMMC 2GB MTFC2GMVEA-0M; PKG: 153-ball WFBGA; PN: MTFC2GMVEA-0M WT; MAN: Micron; Geometry.Height: 0.8mm; DESC: eMMC 2GB Micron
footprint 153-WFBGA-1
pins: A3 DAT0, A4 DAT1, A5 DAT2, B2 DAT3, B3 DAT4, B4 DAT5, B5 DAT6, B6 DAT7, C2 VDDIM, C4 VSSQ, C6 VCCQ, E6 VCC, E7 VSS, F5 VCC, G5 VSS, H10 VSS, J10 VCC, K5 RST_N, K8 VSS, K9 VCC, M4 VCCQ, M5 CMD, M6 CLK, N2 VSSQ, N4 VCCQ, N5 VSSQ, P3 VCCQ, P4 VSSQ, P5 VCCQ, P6 VSSQ

## NANO_WIFI_USB
designator ?
PKG: PTH; Geometry.Height: 3.0 mm; VALOR: iW-USBn-HDC-01; MAN: CONNECT ONE; DESC: NANO WIFI CONNECT ONE; PN: iW-USBn-HDC-01
footprint IW_USBN_HDC_01
pins: 1 VCC_5V, 2 D-, 3 D+, 4 GND

## NVT2003DP
designator ?
PKG: TSSOP10; MAN: NXP; Geometry.Height: 1.1 mm; DESC: Bidirectional voltage-level translator; VALOR: NVT2003DP; PN: NVT2003DP
footprint NVT2003DP
pins: 1 GND, 2 VREFA, 3 A1, 4 A2, 5 A3, 6 B3, 7 B2, 8 B1, 9 VREFB, 10 EN

## OPTO_FOD814SD_-55_105C
designator ?
CurrentRange: Ic=50mA; DESC: OPTO_FOD814SD_-55_110C; Geometry.Height: 3.85 mm; MAN: ON SEMI; ORIGEM: SFI ED03r1; PKG: 4-SMD, Gull Wing; TemperatureRange: [-55;105]ºC; VoltageRange: BVceo=70V;BVeco=6V; PN: FOD814SD; VALOR: FOD814SD
footprint FOD814SD_NS
pins: 1 A, 2 K, 3 E, 4 C

## PCMN2-02
designator J?
PKG: PTH; MAN: METALTEX; Geometry.Height: 11.54mm; DESC: Conector placa-cabo 2.54mm; VALOR: PCMN2-02; PN: PCMN2-02
footprint PCMN2-02
pins: 1, 2

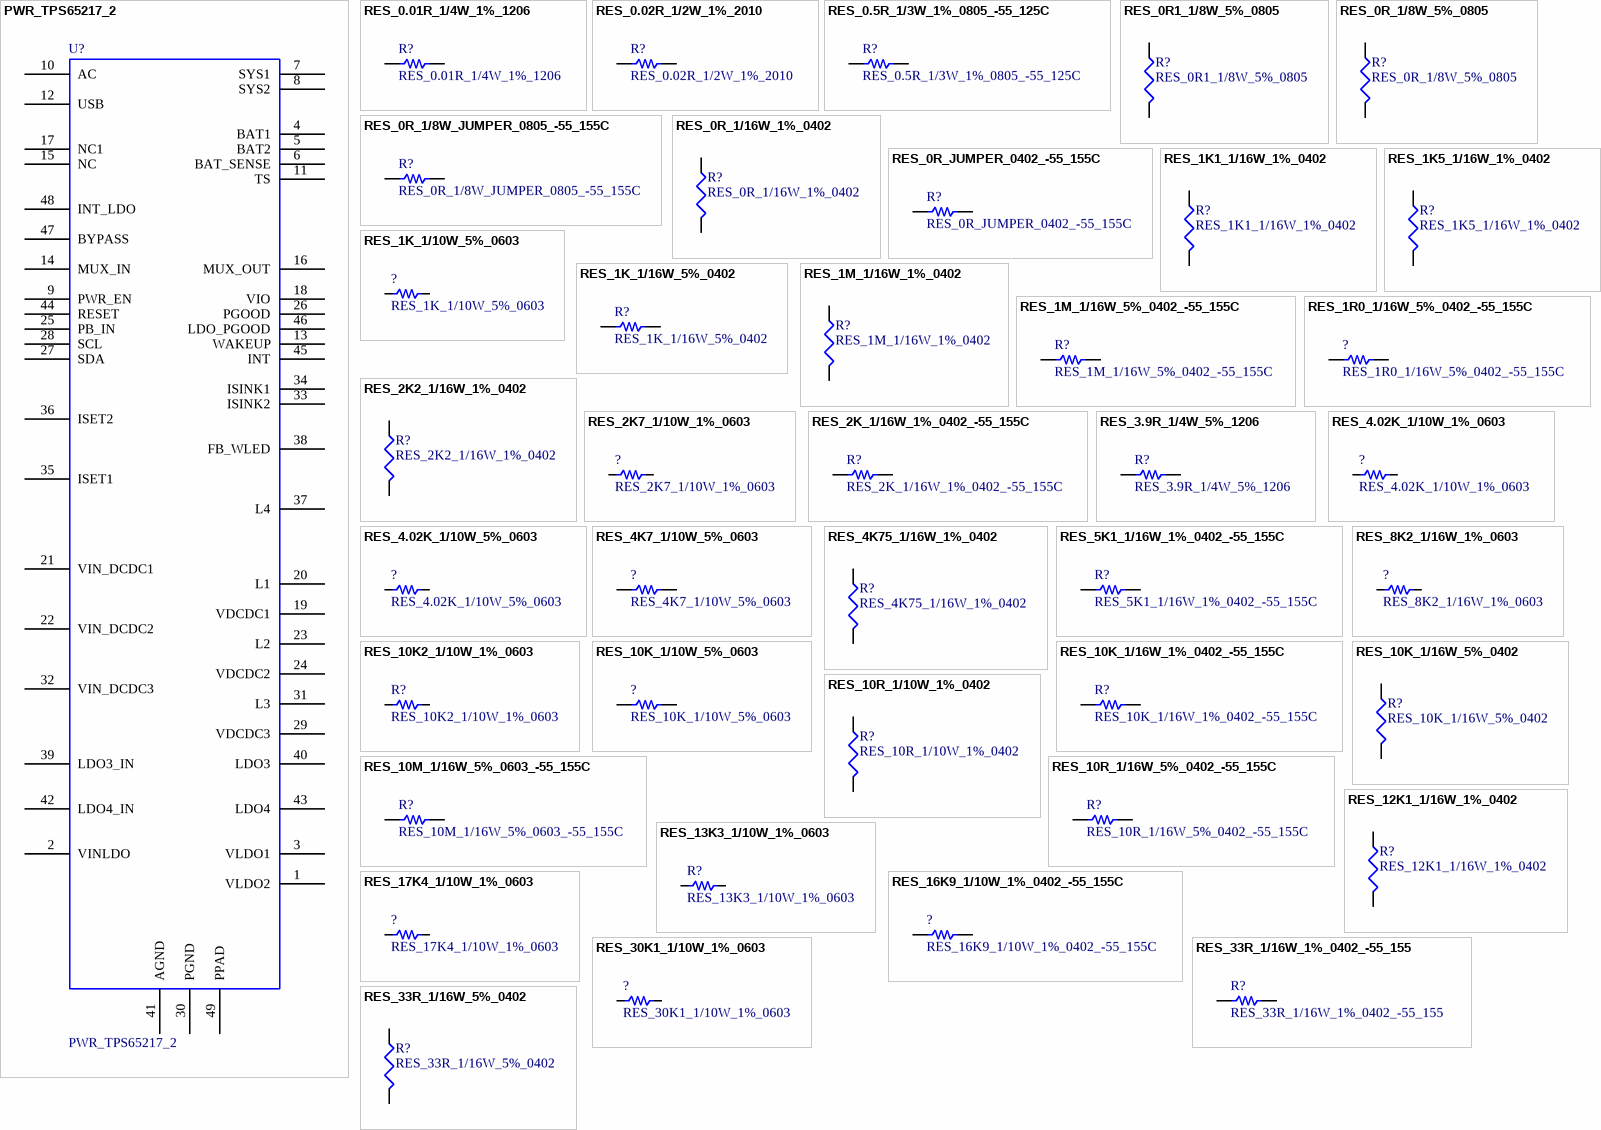
[diagram p14: symbols PWR_TPS65217_2 to RES_33R_1/16W_5%_0402]

## PWR_TPS65217_2
designator U?
PKG: 48 PIN QFN; DESC: Single-chip PMIC; VALOR: TPS65217B; MAN: TI; Geometry.Height: 1.0 mm; PN: TPS65217B
footprint U_48_RSL_1
pins: 1 VLDO2, 2 VINLDO, 3 VLDO1, 4 BAT1, 5 BAT2, 6 BAT_SENSE, 7 SYS1, 8 SYS2, 9 PWR_EN, 10 AC, 11 TS, 12 USB, 13 WAKEUP, 14 MUX_IN, 15 NC, 16 MUX_OUT, 17 NC1, 18 VIO, 19 VDCDC1, 20 L1, 21 VIN_DCDC1, 22 VIN_DCDC2, 23 L2, 24 VDCDC2, 25 PB_IN, 26 PGOOD, 27 SDA, 28 SCL, 29 VDCDC3, 30 PGND, 31 L3, 32 VIN_DCDC3, 33 ISINK2, 34 ISINK1, 35 ISET1, 36 ISET2, 37 L4, 38 FB_WLED, 39 LDO3_IN, 40 LDO3, 41 AGND, 42 LDO4_IN, 43 LDO4, 44 RESET, 45 INT, 46 LDO_PGOOD, 47 BYPASS, 48 INT_LDO, 49 PPAD, 50 GND (power) hidden, 51 GND (power) hidden, 52 GND (power) hidden, 53 GND (power) hidden, 54 GND (power) hidden, 55 GND (power) hidden, 56 GND (power) hidden, 57 GND (power) hidden, 58 GND (power) hidden, 59 GND (power) hidden, 60 GND (power) hidden, 61 GND (power) hidden, 62 GND (power) hidden, 63 GND (power) hidden, 64 GND (power) hidden

## RES_0.01R_1/4W_1%_1206
designator R?
DESC: RES 0.01 OHM 1% 1/4W 1206; Geometry.Height: 0.89mm; MAN: Vishay Dale; PKG: 1206; PN: WSL1206R0100FEA; VALOR: 0.01R 1% 1/4 W
footprint 1206
pins: 1, 2

## RES_0.02R_1/2W_1%_2010
designator R?
DESC: RES 0.02 OHM 1% 1/2W 2010; Geometry.Height: 0.89mm; MAN: Vishay Dale; PKG: 2010; PN: WSL2010R0200FEA; VALOR: 0.02R 1% 1/2 W
footprint RC2010N
footprint RC2010N-L
footprint RC2010N-M
pins: 1, 2

## RES_0.5R_1/3W_1%_0805_-55_125C
designator R?
DESC: RES 0.5R 1/3W 1% 0805; Geometry.Height: 0.5mm; MAN: Susumu; ORIGEM: SFI ED03r1; PKG: 0805; PN: RL1220S-R50-F; VALOR: 0.5R,1%; TemperatureRange: [-55;125]ºC; PowerRating: 1/3W
footprint RES0805
pins: 1, 2

## RES_0R1_1/8W_5%_0805
designator R?
PKG: 0805; DESC: RES 0R1 1/8W 5% 0805; VALOR: 0R1 5%; PN: 73L3R10J; MAN: CTS; Geometry.Height: 0.5 mm
footprint 0805
pins: 1, 2

## RES_0R_1/8W_5%_0805
designator R?
OBS: Montar Ferrite bead nestas posições para EHS5, EHS6, EHS8; PKG: 0805; Geometry.Height: 0.5 mm; MAN: STACKPOLE; YAGEO; PANASONIC; PN: RMCF0805ZG0R00; RC0805JR-070RL; ERJ-6GEY0R00V; VALOR: 0R 5%; DESC: RES 0R 1/8W 5% 0805
footprint 0805
pins: 1, 2

## RES_0R_1/8W_JUMPER_0805_-55_155C
designator R?
DESC: RES 0R Jumper 0805; Geometry.Height: 0.70 mm; MAN: Panasonic; ORIGEM: SFI Ed03r1; PKG: 0805; PN: ERJ-6GEY0R00V; PowerRating: 1/8W; TemperatureRange: [-55;155]ºC; VALOR: 0R
footprint RES0805
pins: 1, 2

## RES_0R_1/16W_1%_0402
designator R?
PKG: 0402; Geometry.Height: 0.35 mm; MAN: YAGEO; Panasonic; PN: RC0402JR-070RL; ERJ-2GE0R00X; VALOR: 0R; DESC: RES 0R Jumper 0402
footprint 0402
pins: 1, 2

## RES_0R_JUMPER_0402_-55_155C
designator R?
DESC: RES 0R 1/16W JUMPER 0402 -55 155C; VALOR: 0R, JUMPER; PN: RC1005F103CS; MAN: Samsung; Geometry.Height: 0.4 mm; PKG: 0402; ORIGEM: SFI ED03r1; PowerRating: 1/16W; TemperatureRange: [-55;155]C
footprint RES0402
pins: 1, 2

## RES_1K1_1/16W_1%_0402
designator R?
PKG: 0402; VALOR: 1K1, 1%; PN: RC0402FR-071K1L; MAN: YAGEO; Geometry.Height: 0.35 mm; DESC: RES 1K1 1/16W 1% 0402
footprint 0402
pins: 1, 2

## RES_1K5_1/16W_1%_0402
designator R?
PKG: 0402; VALOR: 1K5, 1%; PN: RC0402FR-071K5L; MAN: YAGEO; Geometry.Height: 0.3 mm; DESC: RES 1K5 1/16W 1% 0402
footprint 0402
pins: 1, 2

## RES_1K_1/10W_5%_0603
designator ?
Geometry.Height: 0.45mm; PKG: 0603; VALOR: 1K0, 5%; DESC: RES 1K0 5%  1/10W 0603; MAN: VISHAY; Panasonic; samsung; PN: CRCW06031K00JNEA; ERJ-3GEYJ102V; RC1608J102CS
footprint 0603
pins: 1, 2

## RES_1K_1/16W_5%_0402
designator R?
DESC: RES 1K 1/16W 5% 0402; VALOR: 1K, 5%; PN: RC1005J102CS; RMCF0402JT1K00; RC0402JR-071KL; MAN: SAMSUNG; stackpole; yageo; Geometry.Height: 0.35 mm; PKG: 0402
footprint 0402
pins: 1, 2

## RES_1M_1/16W_1%_0402
designator R?
PKG: 0402; VALOR: 1M, 1%; PN: RMCF0402FT1M00; MAN: Stackpole; Geometry.Height: 0.3 mm; DESC: RES 1M 1/16W 1% 0402
footprint 0402
pins: 1, 2

## RES_1M_1/16W_5%_0402_-55_155C
designator R?
DESC: RES 1M 1/16W 5% 0402 -55 155C; Geometry.Height: 0.4 mm; MAN: YAGEO; PKG: 0402; PN: RC0402JR-071ML; VALOR: 1M, 5%; ORIGEM: SFI ED03r1; PowerRating: 1/16W; TemperatureRange: [-55;155]C
footprint RES0402
pins: 1, 2

## RES_1R0_1/16W_5%_0402_-55_155C
designator ?
Geometry.Height: 0.4 mm; MAN: Yageo; ORIGEM: SFI ED03r1; PKG: 0402; PN: RC0402JR-071RL; VALOR: 1 R, 5%; TemperatureRange: [-55,155]C; PowerRating: 1/16W; DESC: RES_1R0_1/16W_5%_0402_-55_155C
footprint RES0402
pins: 1, 2

## RES_2K2_1/16W_1%_0402
designator R?
PKG: 0402; VALOR: 2K2, 5%; PN: CRCW04022K20JNED; MAN: VISHAY; Geometry.Height: 0.35 mm; DESC: RES 2K2 1/16W 5% 0402
footprint 0402
pins: 1, 2

## RES_2K7_1/10W_1%_0603
designator ?
DESC: RES_2K7_1/16W_1%_0603; VALOR: 2k7 1%; PKG: 0603; PN: RC0603FR-072K7L; MAN: YAGEO; Geometry.Height: 0.45mm
footprint 0603
pins: 1, 2

## RES_2K_1/16W_1%_0402_-55_155C
designator R?
Geometry.Height: 0.4 mm; MAN: Yageo; ORIGEM: SFI ED03r1; PKG: 0402; PN: RC0402FR-072KL; PowerRating: 1/16W; TemperatureRange: [-55,155]C; VALOR: 2k R, 1%; DESC: RES_2K_1/16W_1%_0402_-55_155C
footprint RES0402
pins: 1, 2

## RES_3.9R_1/4W_5%_1206
designator R?
DESC: RES SMD 3.9 OHM 5% 1/4W 1206; Geometry.Height: 0.7mm; MAN: Panasonic; PKG: 1206; PN: ERJ-8RQJ3R9V; VALOR: 3.9R 5% 1/4 W
footprint 1206
pins: 1, 2

## RES_4.02K_1/10W_1%_0603
designator ?
DESC: RES 4.02K OHM 1% 1/10W 0603; Geometry.Height: 0.55mm; MAN: Stackpole; PKG: 0603; PN: RMCF0603FT4K02; VALOR: 4.02K, 1%
footprint 0603
pins: 1, 2

## RES_4.02K_1/10W_5%_0603
designator ?
Geometry.Height: 0.45mm; PKG: 0603; VALOR: 1K0, 5%; DESC: RES 1K0 5%  1/10W 0603; MAN: VISHAY; Panasonic; samsung; PN: CRCW06031K00JNEA; ERJ-3GEYJ102V; RC1608J102CS
footprint 0603
pins: 1, 2

## RES_4K7_1/10W_5%_0603
designator ?
DESC: RES 4K7 5%  1/10W  0603; MAN: VISHAY; Panasonic; PKG: 0603; PN: CRCW06034K70JNEA; ; ERJ-3GEYJ472V; VALOR: 4K7, 5%; Geometry.Height: 0.45mm
footprint 0603
pins: 1, 2

## RES_4K75_1/16W_1%_0402
designator R?
PKG: 0402; VALOR: 4K75 1%; PN: RMCF0402FT4K75; MAN: STACKPOLE; Geometry.Height: 0.3 mm; DESC: RES 4.75K 1/16W 1% 0402
footprint 0402
pins: 1, 2

## RES_5K1_1/16W_1%_0402_-55_155C
designator R?
DESC: RES 5k1 1/16W 1% 0402; Geometry.Height: 0.4 mm; MAN: Yageo; ORIGEM: SFI ED03r1; PN: RC0402FR-075K1L; PowerRating: 1/16W; TemperatureRange: [-55;155]ºC; VALOR: 5K1, 1%
footprint RES0402
pins: 1, 2

## RES_8K2_1/16W_1%_0603
designator ?
DESC: RES_8.2K_1/16W_1%_0603; VALOR: 8.2K 1%; PKG: 0603; PN: RMCF0603FT8K20; MAN: Stackpole Electronics Inc; Geometry.Height: 0.45mm
footprint 0603
pins: 1, 2

## RES_10K2_1/10W_1%_0603
designator R?
MAN: YAGEO; SAMSUNG; Geometry.Height: 0.45mm; VALOR: 10K2,1%; PN: RC0603FR-0710K2L; RC1608F1022CS; PKG: 0603; DESC: RES SMD 10.2K OHM 1% 1/10W 0603
footprint 0603
pins: 1, 2

## RES_10K_1/10W_5%_0603
designator ?
DESC: RES 10K0 5%  1/10W 0603; MAN: VISHAY, Samsung; Panasonic; PN: CRCW060310K0JNEA, RC1608J103CS; ERJ-3GEYJ103V; PKG: 0603; VALOR: 10K0, 5%; Geometry.Height: 0.45mm
footprint 0603
pins: 1, 2

## RES_10K_1/16W_1%_0402_-55_155C
designator R?
DESC: RES 10K 1/16W 1% 0402 -55 155C; Geometry.Height: 0.40mm; MAN: Samsung Electro-Mechanics; ORIGEM: SFI ED03r1; PKG: 0402; PN: RC1005F103CS; PowerRating: 0.063W; TemperatureRange: [-55;155]C; VALOR: 10K, 1%
footprint RES0402
pins: 1, 2

## RES_10K_1/16W_5%_0402
designator R?
Geometry.Height: 0.35 mm; MAN: ROHM; Panasonic; PN: MCR01MZPJ103; ERJ-2GEJ103X; PKG: 0402; DESC: RES 10K 1/16W 5% 0402; VALOR: 10K, 5%
footprint 0402
pins: 1, 2

## RES_10M_1/16W_5%_0603_-55_155C
designator R?
DESC: Resistor 10Mohm 1/16W 5% 0603; Geometry.Height: 0.3 mm; MAN: Panasonic; ORIGEM: SFI ED03r1; PKG: 0603; PN: ERJ-3GEYJ106V; TemperatureRange: [-55;155]ºC; VALOR: 10M 5%; PowerRating: 1/16W
footprint RES0603
pins: 1, 2

## RES_10R_1/10W_1%_0402
designator R?
PKG: 0402; VALOR: 10R0, 1%; PN: RMCF0402FT10R0; MAN: Stackpole; Geometry.Height: 0.3 mm; DESC: RES 10R0 1/10W 1% 0402
footprint 0402
pins: 1, 2

## RES_10R_1/16W_5%_0402_-55_155C
designator R?
DESC: RES 10R 1/16W 5% 0402 -55 155C; Geometry.Height: 0.4 mm; MAN: YAGEO; PKG: 0402; PN: RC0402JR-0710RL; VALOR: 10R, 5%; ORIGEM: SFI ED03r1; PowerRating: 1/16W; TemperatureRange: [-55;155]C
footprint RES0402
pins: 1, 2

## RES_12K1_1/16W_1%_0402
designator R?
PKG: 0402; VALOR: 12K1, 1%; PN: RC0402FR-0712K1L; MAN: YAGEO; Geometry.Height: 0.3 mm; DESC: RES 12K1 1/16W 1% 0402
footprint 0402
pins: 1, 2

## RES_13K3_1/10W_1%_0603
designator R?
DESC: RES SMD 13K3 OHM 1% 1/10W 0603; Geometry.Height: 0.55mm; MAN: PANASONIC; PKG: 0603; PN: ERJ-3EKF1332V; VALOR: 13K3,1%
footprint RES_0603_IPC
footprint RES0603
pins: 1, 2

## RES_16K9_1/10W_1%_0402_-55_155C
designator ?
DESC: RES 16K9 1%  1/16W 0402; Geometry.Height: 0.4mm; MAN: Yageo; ORIGEM: SFI ED03r1; PKG: 0402; PN: RC0402FR-0716K9L; VALOR: 16K9, 1%; TemperatureRange: [-55;105]ºC; PowerRating: 1/16W
footprint RES0402
pins: 1, 2

## RES_17K4_1/10W_1%_0603
designator ?
MAN: YAGEO; PANASONIC; Geometry.Height: 0.45mm; VALOR: 17k4, 1%; PN: RC0603FR-0717K4L; ERJ-3EKF1742V; PKG: 0603; DESC: RES SMD 17.4K OHM 1% 1/10W 0603
footprint 0603
pins: 1, 2

## RES_30K1_1/10W_1%_0603
designator ?
PKG: 0603; PN: RMCF0603FT30K1, CRCW060330K1FKEA, RC0603FR-0730K1L; MAN: Stackpole,Vishay, Yageo; DESC: RES 30K1 1%  1/10W 0603; VALOR: 30K1, 1%
footprint 0603
pins: 1, 2

## RES_33R_1/16W_1%_0402_-55_155
designator R?
Geometry.Height: 0.4 mm; MAN: Yageo; ORIGEM: SFI ED03r1; PKG: 0402; PN: RC0402FR-0733RL; PowerRating: 1/16W; TemperatureRange: [-55;155]ºC; VALOR: 33R,1%; DESC: RES_33R_1/16W_1%_0402_-55_155
footprint RES0402
pins: 1, 2

## RES_33R_1/16W_5%_0402
designator R?
PKG: 0402; DESC: RES 33R 1/10W 5% 0402; VALOR: 33R, 5%; PN: ERJ-2GEJ330X; MAN: Panasonic; Geometry.Height: 0.35 mm
footprint 0402
pins: 1, 2

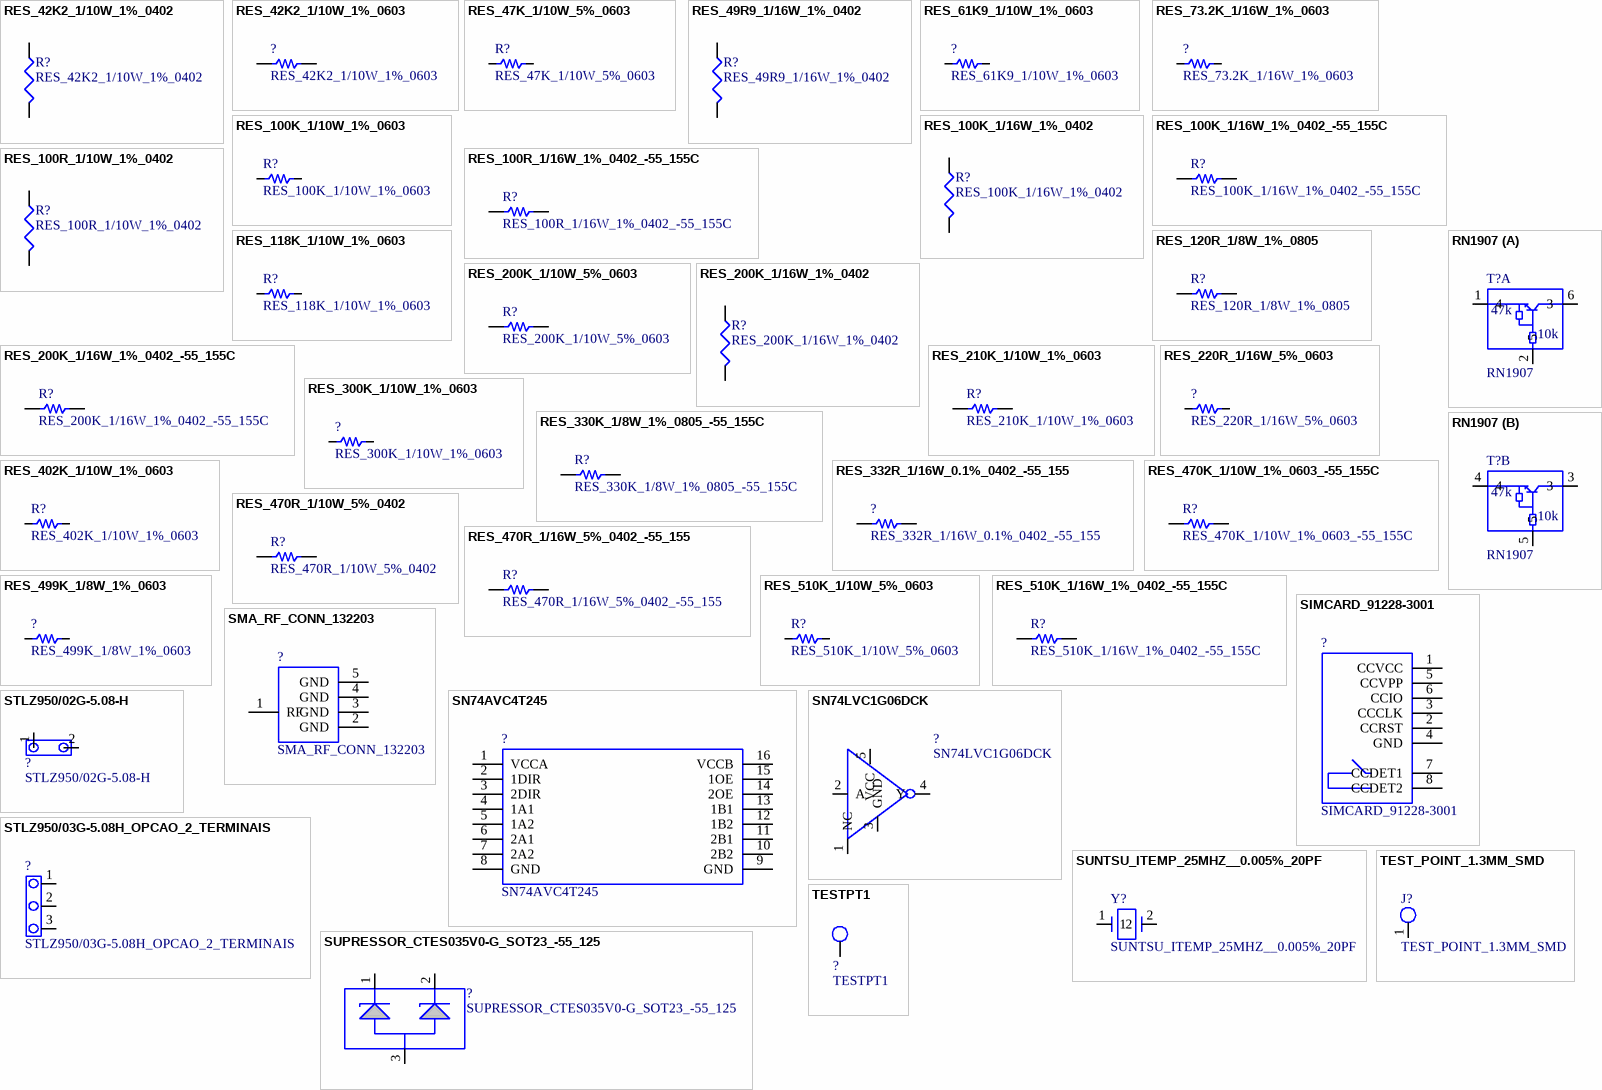
[diagram p15: symbols RES_42K2_1/10W_1%_0402 to TESTPT1]

## RES_42K2_1/10W_1%_0402
designator R?
PKG: 0402; VALOR: 42K2, 1%; PN: ERJ-2RKF4222X; MAN: Panasonic; Geometry.Height: 0.35 mm; DESC: RES 42K2 1/10W 1% 0402
footprint 0402
pins: 1, 2

## RES_42K2_1/10W_1%_0603
designator ?
Geometry.Height: 0.45mm; MAN: YAGEO; SAMSUNG; VALOR: 42K2,1%; PKG: 0603; PN: RC0603FR-0742K2L; RC1608F4222CS; DESC: RES SMD 42K2 OHM 1% 1/10W 0603
footprint 0603
pins: 1, 2

## RES_47K_1/10W_5%_0603
designator R?
Geometry.Height: 0.45mm; VALOR: 47K,5%; PKG: 0603; MAN: VISHAY; SAMSUNG; Panasonic; PN: *; DESC: RES_47K_1/10W_5%_0603
footprint 0603
pins: 1, 2

## RES_49R9_1/16W_1%_0402
designator R?
PKG: 0402; DESC: RES 49R9 1/16W 1% 0402; VALOR: 49R9, 1%; PN: RC0402FR-0749R9L; MAN: YAGEO; Geometry.Height: 0.35 mm
footprint 0402
pins: 1, 2

## RES_61K9_1/10W_1%_0603
designator ?
DESC: RES SMD 61.9K OHM 1% 1/10W 0603; PKG: 0603; PN: RC0603FR-0761K9L;ERJ-3EKF6192V; VALOR: 61.9K, 1%; Geometry.Height: 0.55mm; MAN: YAGEO;PANASONIC
footprint 0603
pins: 1, 2

## RES_73.2K_1/16W_1%_0603
designator ?
PKG: 0603; PN: ERJ-3EKF7322V; MAN: Panasonic; DESC: RES 73.2k 1%  1/16W 0603; VALOR: 73.2k, 1%
footprint 0603
pins: 1, 2

## RES_100K_1/10W_1%_0603
designator R?
DESC: RES SMD 100K OHM 1% 1/10W 0603; Geometry.Height: 0.55mm; MAN: VISHAY; PKG: 0603; PN: CRCW0603100KFKEAC; VALOR: 100K,1%
footprint RES_0603_IPC
footprint RES0603
pins: 1, 2

## RES_100K_1/16W_1%_0402
designator R?
PKG: 0402; DESC: RES 100K 1/16W 1% 0402; Geometry.Height: 0.3 mm; MAN: Stackpole; PN: RMCF0402FT100K; VALOR: 100K 1%
footprint 0402
pins: 1, 2

## RES_100K_1/16W_1%_0402_-55_155C
designator R?
DESC: RES 100K 1/16W 1% 0402 -55 155C; Geometry.Height: 0.4000mm; MAN: YAGEO; PKG: 0402; PN: RC0402FR-07100KL; VALOR: 100K, 1%; ORIGEM: SFI ED03r1; PowerRating: 1/16W; TemperatureRange: [-55;155]C
footprint RES0402
pins: 1, 2

## RES_100R_1/10W_1%_0402
designator R?
PKG: 0402; DESC: RES 100R 1/10W 1% 0402; VALOR: 100R, 1%; PN: ERJ-2RKF1000X; MAN: Panasonic; Geometry.Height: 0.35 mm
footprint 0402
pins: 1, 2

## RES_100R_1/16W_1%_0402_-55_155C
designator R?
DESC: RES 100R 1/16W 1% 0402; Geometry.Height: 0.4mm; MAN: YAGEO; ORIGEM: SFI ED03r1; PKG: 0402; PN: RC0402FR-07100RL; PowerRating: 1/16W; TemperatureRange: [-55;155]ºC; VALOR: 100R, 1%
footprint RES0402
pins: 1, 2

## RES_118K_1/10W_1%_0603
designator R?
MAN: Stackpole,PANASONIC; Geometry.Height: 0.55mm; VALOR: 118K, 1%; PN: RMCF0603FT118K;ERJ-3EKF1183V; PKG: 0603; DESC: RES 118K OHM 1% 1/10W 0603
footprint 0603
pins: 1, 2

## RES_120R_1/8W_1%_0805
designator R?
VALOR: 120R 1%; PN: RC0805FR-07120RL; PKG: 0805; ORIGEM: Conversor Pino ed01r2; MAN: YAGEO; Geometry.Height: 0.5 mm; DESC: RES 120R 1/8W 1% 0805
footprint 0805
pins: 1, 2

## RES_200K_1/10W_5%_0603
designator R?
MAN: VISHAY; SAMSUNG; PN: CRCW0603200KJNEA; RC1608J204CS; PKG: 0603; VALOR: 200K,5%; Geometry.Height: 0.55mm; ORIGEM: SmartBreaker ed02r3; DESC: RES_200K_1/10W_5%_0603
footprint 0603
pins: 1, 2

## RES_200K_1/16W_1%_0402
designator R?
PKG: 0402; DESC: RES 200K 1/16W 1% 0402; Geometry.Height: 0.3 mm; MAN: YAGEO; PN: RC0402FR-07200KL; VALOR: 200K 1%
footprint 0402
pins: 1, 2

## RES_200K_1/16W_1%_0402_-55_155C
designator R?
DESC: RES 200K 1/16W 1% 0402 -55 155C; Geometry.Height: 0.4 mm; MAN: YAGEO; PKG: 0402; PN: RC0402FR-07200KL; VALOR: 200K, 1%; ORIGEM: SFI ED03r1; PowerRating: 1/16W; TemperatureRange: [-55;155]C
footprint RES0402
pins: 1, 2

## RES_210K_1/10W_1%_0603
designator R?
ORIGEM: GTSILVERED03; MAN: SAMSUNG;YAGEO; Geometry.Height: 0.55mm; VALOR: 210K,1%; PN: RC1608F2103CS;RC0603FR-07210KL; PKG: 0603; DESC: RES 210K OHM 1% 1/10W 0603
footprint 0603
pins: 1, 2

## RES_220R_1/16W_5%_0603
designator ?
Geometry.Height: 0.45mm; PKG: 0603; VALOR: 220R, 5%; DESC: RES 220 5%  1/10W 0603; MAN: YAGEO; PN: RC0402JR-07220RL
footprint 0603
pins: 1, 2

## RES_300K_1/10W_1%_0603
designator ?
MAN: SAMSUNG; PANASONIC; Geometry.Height: 0.45mm; VALOR: 300K, 1%; PN: RC1608F304CS; ERJ-3EKF3003V; PKG: 0603; DESC: RES SMD 300K OHM 1% 1/10W 0603
footprint 0603
pins: 1, 2

## RES_330K_1/8W_1%_0805_-55_155C
designator R?
DESC: RES 330K 1/8W 1% 0805 -55 155C; Geometry.Height: 0.6mm; MAN: YAGEO; ORIGEM: SFI ED03r1; PKG: 0805; PN: RC0805FR-07330KL; PowerRating: 1/8W; TemperatureRange: [-55;155]C; VALOR: 330K, 1%
footprint RES0805
pins: 1, 2

## RES_332R_1/16W_0.1%_0402_-55_155
designator ?
Geometry.Height: 0.35 mm; MAN: TE Connectivity Passive Product; ORIGEM: SFI ED03r1; PKG: 0402; PN: CPF0402B332RE1; PowerRating: 1/16W; TemperatureRange: [-55;155]ºC; VALOR: 332R , 0.1%; DESC: RES_332R_1/16W_0.1%_0402_-55_155
footprint RES0402
pins: 1, 2

## RES_402K_1/10W_1%_0603
designator R?
DESC: RES SMD 402K OHM 1% 1/10W 0603; Geometry.Height: 0.55mm; MAN: Panasonic; PKG: 0603; PN: ERJ-3EKF4023V; VALOR: 402K,1%
footprint RES_0603_IPC
footprint RES0603
pins: 1, 2

## RES_470K_1/10W_1%_0603_-55_155C
designator R?
DESC: RES 470K 0603 1%; Geometry.Height: 1.3mm; MAN: VISHAY; ORIGEM: SFI ED03r1; PKG: 0603; PN: CRCW0603470KFKEA; PowerRating: 1/10W; TemperatureRange: [-55;155]ºC; VALOR: 470K 1%
footprint RES0603
pins: 1, 2

## RES_470R_1/10W_5%_0402
designator R?
DESC: RES 470 1/10W 5% 0402; Geometry.Height: 0.35 mm; MAN: Panasonic; PN: ERJ-2GEJ471X; VALOR: 470R, 5%; PKG: 0402
footprint 0402
pins: 1, 2

## RES_470R_1/16W_5%_0402_-55_155
designator R?
Geometry.Height: 0.4 mm; MAN: Panasonic; ORIGEM: SFI ED03r1; PKG: 0402; PN: P470JCT-ND; PowerRating: 1/16W; TemperatureRange: [-55;155]ºC; VALOR: 470R, 5%; DESC: RES_470R_1/16W_5%_0402_-55_155
footprint RES0402
pins: 1, 2

## RES_499K_1/8W_1%_0603
designator ?
DESC: RES SMD 499K OHM 1% 1/8W 0603; Geometry.Height: 0.55mm; MAN: Vishay; PKG: 0603; PN: MCT06030C4993FP500; VALOR: 499K, 1%
footprint 0603
pins: 1, 2

## RES_510K_1/10W_5%_0603
designator R?
DESC: RES SMD 100K OHM 5% 1/10W 0603; Geometry.Height: 0.55mm; MAN: VISHAY; PKG: 0603; PN: CRCW0603510KJNEA; VALOR: 510K,5%
footprint RES_0603_IPC
footprint RES0603
pins: 1, 2

## RES_510K_1/16W_1%_0402_-55_155C
designator R?
DESC: RES SMD 510K OHM 1% 1/16W 0402; Geometry.Height: 0.4 mm; MAN: Yageo; ORIGEM: SFI ED03r1; PKG: 0402; PN: RC0402FR-07510KL; VALOR: 510K, 1%; TemperatureRange: [-55;155]V; PowerRating: 1/16W
footprint RES0402
pins: 1, 2

## RN1907
designator T?
PKG: SMini6-F3-B; MAN: Panasonic, Diodes Inc; Geometry.Height: 0.9 mm; DESC: Dual Silicon NPN epitaxial planar type; VALOR: Dual NPN; PN: DMC56404, DDC114YU-7-F
footprint SMINI6-F3-B
part A pins: 1 4, 2 5, 6 3
part B pins: 3, 4, 5
part A text: 47k; 10k
part B text: 47k; 10k

## SIMCARD_91228-3001
designator ?
Geometry.Height: 1.3 mm; PKG: SMD; MAN: MOLEX; DESC: Conn ChipSIM 6 Pos W/Eject; PN: 91228-3001; VALOR: 91228-3001
footprint SIM-CARD-GT650
pins: 1 CCVCC, 2 CCRST, 3 CCCLK, 4 GND, 5 CCVPP, 6 CCIO, 7 CCDET1, 8 CCDET2

## SMA_RF_CONN_132203
designator ?
DESC: CONN SMA JACK R/A 50 OHM PCB 20.5 mm; MAN: AMPHENOL; JYEBAO; PKG: PTH; PN: 132203; SMA8400A1-9000/CP; VALOR: SMA, 50ohm, 20.5mm; Geometry.Height: 10mm
footprint CONN_SMA_PTH
pins: 1 RF, 2 GND, 3 GND, 4 GND, 5 GND

## SN74AVC4T245
designator ?
PKG: TSSOP-PW; MAN: TI; Geometry.Height: 1.2 mm; DESC: 4-BIT Dual-supply Bus transceiver; VALOR: SN74AVC4T245PW; PN: SN74AVC4T245PW
footprint TSSOP_PW_R_PDSO_G16
pins: 1 VCCA (power), 2 1DIR, 3 2DIR, 4 1A1, 5 1A2, 6 2A1, 7 2A2, 8 GND, 9 GND, 10 2B2, 11 2B1, 12 1B2, 13 1B1, 14 2OE, 15 1OE, 16 VCCB (power)

## SN74LVC1G06DCK
designator ?
PKG: SOT(SC-70) DCK; MAN: TI; Geometry.Height: 0.8 mm; DESC: IC SGL POS EDG TRIG D F-F SM8; VALOR: SN74LVC1G06DCK; PN: SN74LVC1G06DCK
footprint SOT(SC-70)_DCK
pins: 1 NC, 2 A, 3 GND, 4 Y, 5 VCC

## STLZ950/02G-5.08-H
designator ?
DESC: Terminal block header 5.08mm 02 pos PCB; PKG: PTH; PN: STLZ950/02G-5.08-H-GREEN; 2EDGRC-5.08-02P-14; VALOR: STLZ950 02G 5.08H; Geometry.Height: 8.6 mm; MAN: Phoenix Mecano; DEGSON
footprint STLZ950/02G-5.08-H
pins: 1, 2

## STLZ950/03G-5.08H_OPCAO_2_TERMINAIS
designator ?
OBS: Podemos montar o STLZ950/03G-5.08H-GREEN na mesma posição para utilização de bateria externa.; PN: STLZ950/02G-5.08H-GREEN; 2EDGRC-5.08-02P-14; PKG: PTH; MAN: Phoenix Mecano; Degson; Geometry.Height: 8.4mm; DESC: Terminal block header 5.08mm 03 pos PCB; VALOR: STLZ950/02G-5.08H
footprint STLZ950/03G-5.08H
pins: 1, 2, 3

## SUNTSU_ITEMP_25MHZ__0.005%_20PF
designator Y?
PKG: SMD; DESC: Miniature Ceramic SD Crystal 25 MHz; VALOR: ABM3-25.000MHz-B2-T; MAN: ABRACON; Geometry.Height: 1.3 mm; PN: ABM3-25.000MHz-B2-T
footprint XTAL2_5X3P2_SMD
pins: 1, 2

## SUPRESSOR_CTES035V0-G_SOT23_-55_125
designator ?
CurrentRange: Ipp=17A; Geometry.Height: 0.95 mm; MAN: Comchip Technology; ORIGEM: SFI ED03r1; PKG: SOT23; TemperatureRange: [-55,125]ºC; VoltageRange: V_work=5V;V_break=6V;V_clamp=10V;; DESC: SUPRESSOR_CTES035V0-G_SOT23_-55_125; PN: CTES035V0-G; VALOR: SUPRESSOR_CTES035V0-G
footprint CTES035V0-G
pins: 1, 2, 3

## TEST_POINT_1.3MM_SMD
designator J?
DESC: TEST_POINT 1.3mm SMD; ORIGEM: SFI ED03r1
footprint TP1.3_SMD
pins: 1

## TESTPT1
designator ?
DESC: TEST POINT; Geometry.Height: *; MAN: *; PN: *; VALOR: *
footprint TP60C_SMD
pins: 1 TP

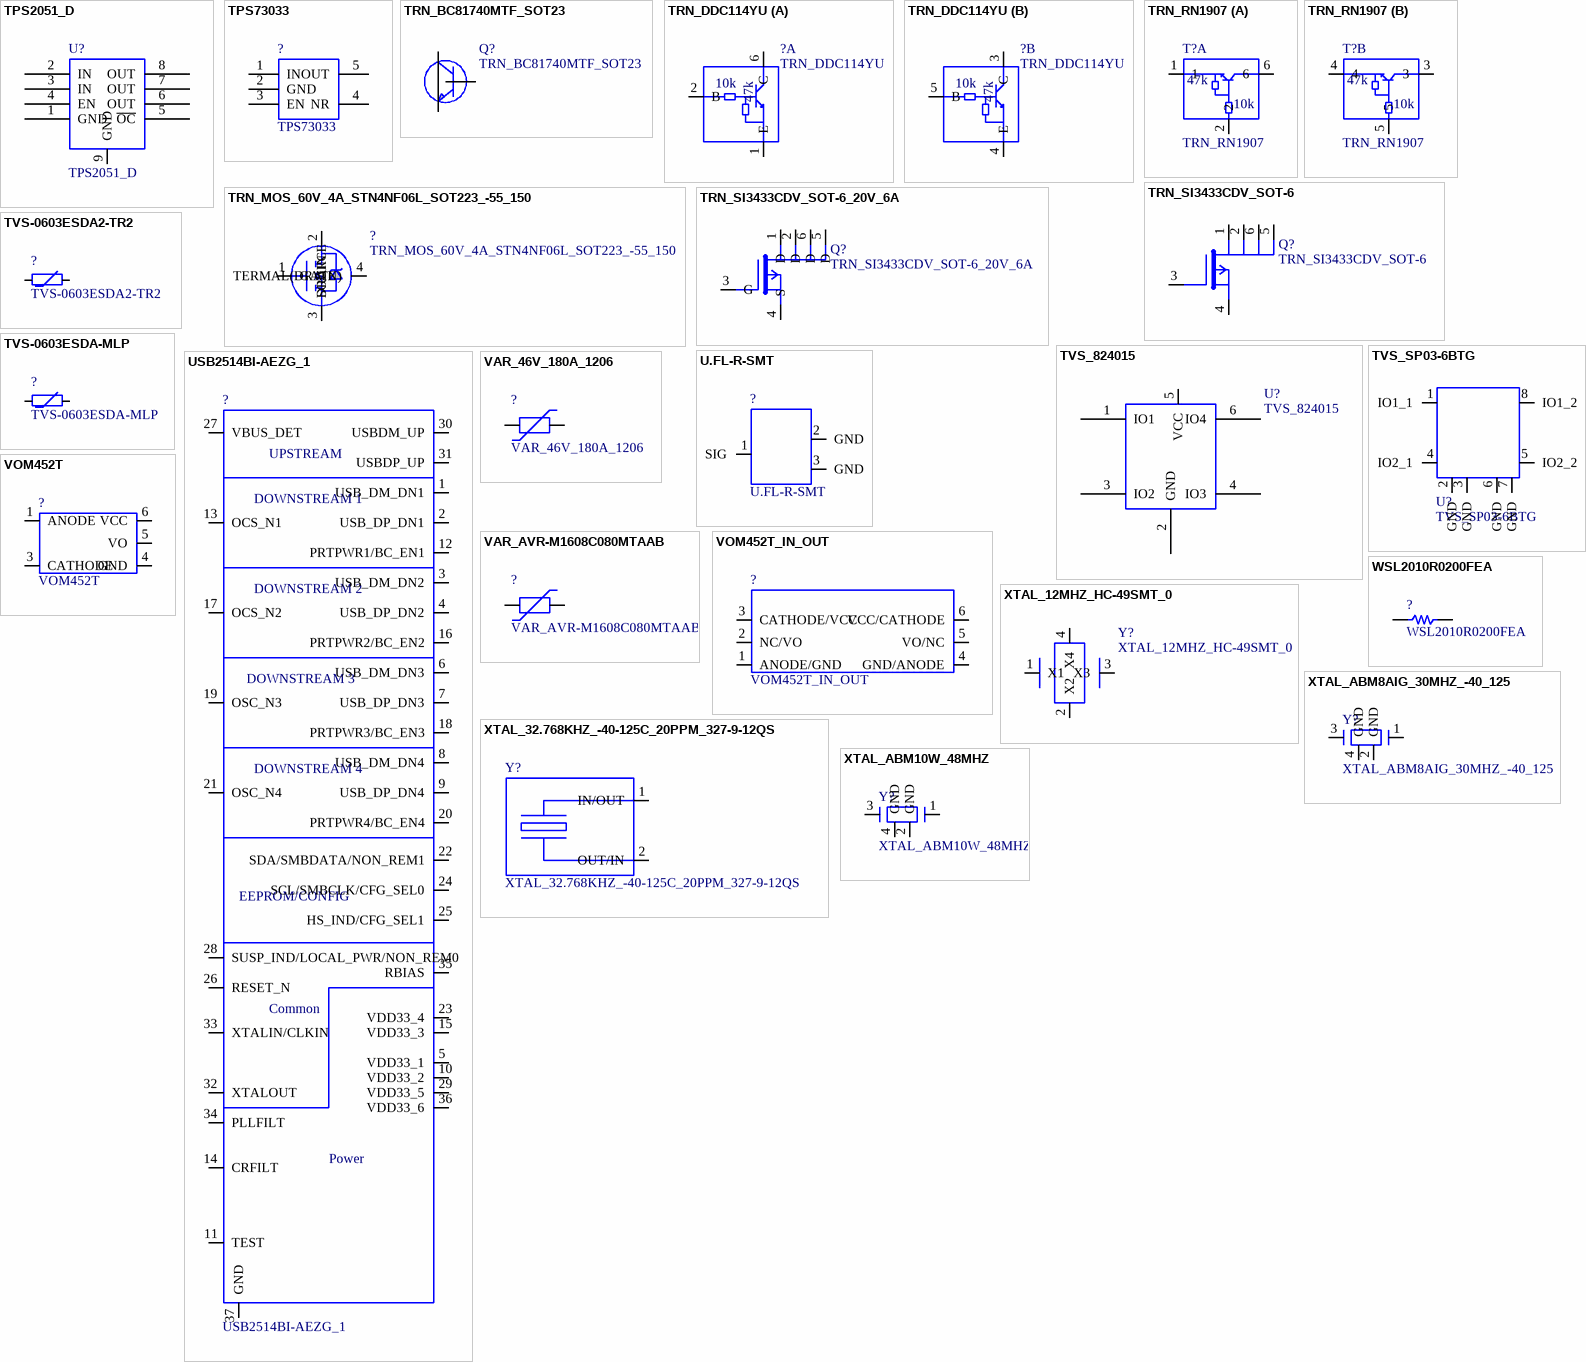
[diagram p16: symbols TPS2051_D to XTAL_ABM10W_48MHZ]

## TPS2051_D
designator U?
PKG: DGN; DESC: Power Distribution Switches; VALOR: TPS2051BDGN; MAN: TI; Geometry.Height: 1.1 mm; PN: TPS2051BDGN
footprint DGN
pins: 1 GND (power), 2 IN (power), 3 IN (power), 4 EN, 5 ~{OC}, 6 OUT (power), 7 OUT (power), 8 OUT (power), 9 GND (power)

## TPS73033
designator ?
DESC: LOW-NOISE, HIGH PSRR, RF 200-mA LOW-DROPOUT LINEAR REGULATORS; MAN: Texas Instruments; PKG: 5-SOT23 (DBV); PN: TPS73033DBVR
footprint SOT23-5
pins: 1 IN, 2 GND, 3 EN, 4 NR, 5 OUT

## TRN_BC81740MTF_SOT23
designator Q?
PKG: SOT-23; Geometry.Height: 1.1mm; VALOR: BC817; MAN: FAIRCHILD; DESC: NPN Epitaxial Silicon Transistor; PN: BC81740MTF
footprint SOT23_FAIRCHILD
pins: 1 B, 2 E, 3 C

## TRN_DDC114YU
designator ?
CurrentRange: ILmax=0.88mA;Iomax=100mA; DESC: TRANS 2NPN PREBIAS 0.2W SOT363; Geometry.Height: 1.1mm; MAN: Diodes Incorporated; ORIGEM: SFI ED03r1; PKG: SOT363; TemperatureRange: [-55;150]ºC; VoltageRange: [-6;40]V; PN: DDC114YU; VALOR: DDC114YU
footprint DDC114YU
part A pins: 1 E, 2 B, 6 C
part B pins: 3 C, 4 E, 5 B
part A text: 10k; 47k
part B text: 10k; 47k

## TRN_MOS_60V_4A_STN4NF06L_SOT223_-55_150
designator ?
CurrentRange: Idmin=1uA;Idmax=4A; DESC: TRANS MOS 60V 4A sot-223; Geometry.Height: 1.7 mm; MAN: STMicroelectronics; ORIGEM: SFI ED02r1; PKG: SOT223; TemperatureRange: [-55;155]ºC; VALOR: TRANS MOS; VoltageRange: [0;60]V; PN: STN4NF06L
footprint STN4NF06L
pins: 1 GATE, 2 DRAIN, 3 SOURCE, 4 TERMAL(DRAIN)

## TRN_RN1907
designator T?
VALOR: Dual NPN; PN: DMC56404, DDC114YU-7-F; PKG: SOT363; ORIGEM: SmartRamal ed01r3; MAN: Panasonic, Diodes Inc; Geometry.Height: 0.9 mm; DESC: Dual Silicon NPN epitaxial planar type
footprint SMINI6-F3-B
part A pins: 1, 2, 6
part B pins: 3, 4, 5
part A text: 47k; 10k
part B text: 47k; 10k

## TRN_SI3433CDV_SOT-6
designator Q?
Geometry.Height: 1mm; PKG: SuperSOT-6; MAN: VISHAY; DESC: P-Channel 20V (D-S) MOSFET (RdsON <=0.06ohm); VALOR: SI3433CDV; PN: SI3433CDV
footprint SUPERSOT-6
pins: 1, 2, 3, 4, 5, 6

## TRN_SI3433CDV_SOT-6_20V_6A
designator Q?
CurrentRange: Idmax=-6A; DESC: P-Channel 20V 6A MOSFET; Geometry.Height: 1mm; MAN: VISHAY; PKG: 6-TSOP; PN: SI3433CDV-T1-E3; TemperatureRange: [-55;150]ºC; ORIGEM: SFI_ED03r1; VoltageRange: Vdsmax=-20V;Vgsmax=±8V; VALOR: SI3433CDV
footprint SUPERSOT-6
pins: 1 D, 2 D, 3 G, 4 S, 5 D, 6 D

## TVS-0603ESDA2-TR2
designator ?
PKG: 0603; DESC: ESD Suprressor Polysurg; MAN: CooperBussmann; VALOR: 0603ESDA2-TR2; PN: 0603ESDA2-TR2
footprint 0603
pins: 1, 2

## TVS-0603ESDA-MLP
designator ?
Geometry.Height: 1 mm; PKG: 0603; DESC: ESD Suprressor Polysurg; MAN: CooperBussmann; VALOR: 0603ESDA-MLP; PN: 0603ESDA-MLP
footprint 0603
pins: 1, 2

## TVS_824015
designator U?
VALOR: SP0504SH; PN: SP0504SH, 824015; PKG: SO23-6; MAN: littelfuse, wurth; Geometry.Height: 0.6 mm; DESC: TVS array ESD protection 4channel USB Interface
footprint SOT23-6
pins: 1 IO1, 2 GND, 3 IO2, 4 IO3 (power), 5 VCC, 6 IO4 (power)

## TVS_SP03-6BTG
designator U?
PKG: 8-SOIC; MAN: littelfuse; Geometry.Height: 1.75mm; DESC: TVS array ESD protection 4channel RS485; VALOR: SP03-6BTG; PN: SP03-6BTG
footprint SOIC_8
pins: 1 IO1_1, 2 GND, 3 GND, 4 IO2_1, 5 IO2_2, 6 GND, 7 GND, 8 IO1_2

## U.FL-R-SMT
designator ?
DESC: Ultra Small Surface Mount Coaxial Connectors; Geometry.Height: 1.25mm; MAN: HIROSE; PKG: SMD; PN: U.FL-R-SMT-1(10); VALOR: U.FL-R-SMT-1(10)
footprint U.FL-R-SMT
pins: 1 SIG, 2 GND, 3 GND

## USB2514BI-AEZG_1
designator ?
PKG: 36QFN; MAN: SMSC; Geometry.Height: 1.0mm; DESC: USB 2.0 HUB 4 downstreams; VALOR: USB2514; PN: USB2514Bi-AEZG
footprint USB2514_36QFN_3
pins: 1 USB_DM_DN1, 2 USB_DP_DN1, 3 USB_DM_DN2, 4 USB_DP_DN2, 5 VDD33_1, 6 USB_DM_DN3, 7 USB_DP_DN3, 8 USB_DM_DN4, 9 USB_DP_DN4, 10 VDD33_2, 11 TEST, 12 PRTPWR1/BC_EN1, 13 OCS_N1, 14 CRFILT, 15 VDD33_3, 16 PRTPWR2/BC_EN2, 17 OCS_N2, 18 PRTPWR3/BC_EN3, 19 OSC_N3, 20 PRTPWR4/BC_EN4, 21 OSC_N4, 22 SDA/SMBDATA/NON_REM1, 23 VDD33_4, 24 SCL/SMBCLK/CFG_SEL0, 25 HS_IND/CFG_SEL1, 26 RESET_N, 27 VBUS_DET, 28 SUSP_IND/LOCAL_PWR/NON_REM0, 29 VDD33_5, 30 USBDM_UP, 31 USBDP_UP, 32 XTALOUT, 33 XTALIN/CLKIN, 34 PLLFILT, 35 RBIAS, 36 VDD33_6, 37 GND
text: UPSTREAM; DOWNSTREAM 1; DOWNSTREAM 2; DOWNSTREAM 3; DOWNSTREAM 4; EEPROM/CONFIG; Common; Power

## VAR_46V_180A_1206
designator ?
Geometry.Height: 2.5mm; VALOR: 46V,180A; PN: V42MLA1206NH; PKG: 1206; MAN: LITTELFUSE; DESC: VARISTOR 46V 180A 1206
footprint 1206
pins: 1, 2

## VAR_AVR-M1608C080MTAAB
designator ?
MAN: TDK; DESC: VARISTOR 8V 30A 0603; PKG: 0603; Geometry.Height: 2.5 mm; VALOR: AVR-M1608C080MTAAB; PN: AVR-M1608C080MTAAB
footprint 0603
pins: 1, 2

## VOM452T
designator ?
PKG: SOP-5; MAN: VISHAY; Geometry.Height: 2.0 mm; DESC: Analog High Speed Coupler, 1MBd, SOP-5; VALOR: VOM452T; PN: VOM452T
footprint VOM452T
pins: 1 ANODE, 3 CATHODE, 4 GND, 5 VO, 6 VCC

## VOM452T_IN_OUT
designator ?
OBS: Se entrada, rotacionar 180º; PKG: SOP-5; MAN: VISHAY; Geometry.Height: 2.0 mm; DESC: Analog High Speed Coupler, 1MBd, SOP-5; VALOR: VOM452T; PN: VOM452T
footprint VOM452T_IN_OUT
pins: 1 ANODE/GND, 2 NC/VO, 3 CATHODE/VCC, 4 GND/ANODE, 5 VO/NC, 6 VCC/CATHODE

## WSL2010R0200FEA
designator ?
MAN: Vishay; PN: WSL2010R0200FEA
footprint RC2010N
pins: 1, 2

## XTAL_12MHZ_HC-49SMT_0
designator Y?
PKG: SMD; VALOR: ECS-120-20-30B-TR; MAN: ECS INC; Geometry.Height: 0.85 mm; DESC: SMD Quartz Crystal 12MHz 20pF; PN: ECS-120-20-30B-TR
footprint XTAL4_3P2X5SMD
pins: 1 X1, 2 X2, 3 X3, 4 X4

## XTAL_32.768KHZ_-40-125C_20PPM_327-9-12QS
designator Y?
DESC: 32.768KHZ SMD CRYSTAL -40 125C 20 ppm_ECS-.327-9-12QS-TR; Geometry.Height: 0.6 mm; MAN: ECS Inc.; ORIGEM: SFI ED03r1; PKG: SMD; PN: ECS-.327-9-12QS-TR; TemperatureRange: [-40;125]C; VALOR: 32.768kHz 20ppm
footprint ECS-.327-9-12QS-TR
pins: 1 IN/OUT, 2 OUT/IN

## XTAL_ABM8AIG_30MHZ_-40_125
designator Y?
FrequencyRange: 30 MHz +- 20 ppm; Geometry.Height: 0.8 mm; MAN: Abracon LLC; ORIGEM: SFI Ed03r1; PKG: 4-SMD, No Lead; PN: ABM8AIG-30.000MHZ-12-2Z-T3; TemperatureRange: [-40;125]C; VALOR: 30MHz +-20ppm; DESC: XTAL_ABM8AIG_30MHz_-40_125
footprint XTAL_ABM8AIG
pins: 1, 2 GND, 3, 4 GND

## XTAL_ABM10W_48MHZ
designator Y?
DESC: XTAL ABM10W 48MHz; MAN: Abracon LLC; ORIGEM: SFI Ed03r1; PKG: 4-SMD, No Lead; PN: ABM10W-48.0000MHZ-6-K1Z-T3; VALOR: 48MHz; TemperatureRange: [-40;125]C; Geometry.Height: 0.6 mm; FrequencyRange: 48 MHz +- 10 ppm
footprint ABM10W-480000MHZ-6-K1Z
pins: 1, 2 GND, 3, 4 GND